# Altium integrated library CDE_Library.IntLib: 6171 symbols (part 22 of 25)
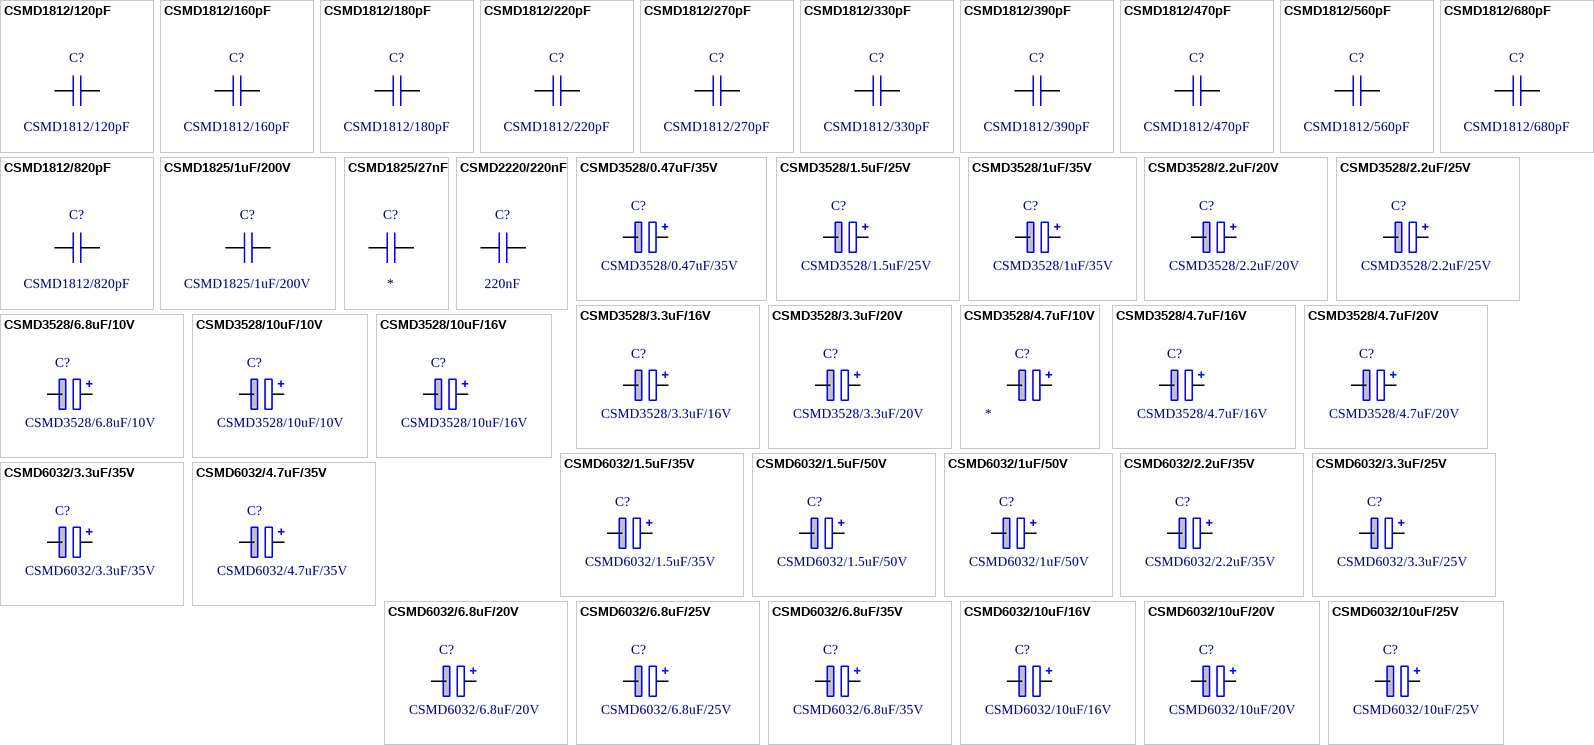
[diagram p278: symbols CSMD1812/120pF to CSMD6032/10uF/25V]

## CSMD1812/820pF
designator C?
smd capaciteit, verp.1812, 820pF; Part Number: CSMD1812/820pF; Component Kind: Standard; Component Type: Standard; Designator: CSMD1812/820pF; Footprint: smd C1812; Library Reference: CSMD1812/820pF; Pin Count: 2
footprint smd C1812
pins: 1, 2

## CSMD1825/1uF/200V
designator C?
smd capaciteit, verp.1825, 1uF/200V; Part Number: CSMD1825/1uF/200V; Component Kind: Standard; Component Type: Standard; Designator: CSMD1825/1uF/200V; Footprint: smd C1825; Library Reference: CSMD1825/1uF/200V; Pin Count: 2
footprint smd C1825
pins: 1, 2

## CSMD1825/27nF
designator C?
smd capaciteit, verp.1825, 27nF
footprint smd C1825
pins: 1, 2

## CSMD2220/220nF
designator C?, comment 220nF
smd capaciteit, verp.2220, 220nF
footprint smd C2220 (Chip Capacitor; Body 5.7 x 5.0 mm (LxW typ))
pins: 1, 2

## CSMD3528/0.47uF/35V
designator C?
smd capaciteit, tantalium, verp.3528, 0.47uF/35V; Part Number: CSMD3528/0.47uF/35V; Component Kind: Standard; Component Type: Standard; Designator: CSMD3528/0.47uF/35V; Footprint: smd EIA3528 polar; Library Reference: CSMD3528/0.47uF/35V; Pin Count: 2
footprint smd EIA3528 polar
pins: 1, 2

## CSMD3528/1.5uF/25V
designator C?
smd capaciteit, tantalium, verp.3528, 1.5uF/25V; Part Number: CSMD3528/1.5uF/25V; Component Kind: Standard; Component Type: Standard; Designator: CSMD3528/1.5uF/25V; Footprint: smd EIA3528 polar; Library Reference: CSMD3528/1.5uF/25V; Pin Count: 2
footprint smd EIA3528 polar
pins: 1, 2

## CSMD3528/1uF/35V
designator C?
smd capaciteit, tantalium, verp.3528, 1uF/35V; Part Number: CSMD3528/1uF/35V; Component Kind: Standard; Component Type: Standard; Designator: CSMD3528/1uF/35V; Footprint: smd EIA3528 polar; Library Reference: CSMD3528/1uF/35V; Pin Count: 2
footprint smd EIA3528 polar
pins: 1, 2

## CSMD3528/2.2uF/20V
designator C?
smd capaciteit, tantalium, verp.3528, 2.2uF/20V; Part Number: CSMD3528/2.2uF/20V; Component Kind: Standard; Component Type: Standard; Designator: CSMD3528/2.2uF/20V; Footprint: smd EIA3528 polar; Library Reference: CSMD3528/2.2uF/20V; Pin Count: 2
footprint smd EIA3528 polar
pins: 1, 2

## CSMD3528/2.2uF/25V
designator C?
smd capaciteit, tantalium, verp.3528, 2.2uF/25V; Part Number: CSMD3528/2.2uF/25V; Component Kind: Standard; Component Type: Standard; Designator: CSMD3528/2.2uF/25V; Footprint: smd EIA3528 polar; Library Reference: CSMD3528/2.2uF/25V; Pin Count: 2
footprint smd EIA3528 polar
pins: 1, 2

## CSMD3528/3.3uF/16V
designator C?
smd capaciteit, tantalium, verp.3528, 3.3uF/16V; Part Number: CSMD3528/3.3uF/16V; Component Kind: Standard; Component Type: Standard; Designator: CSMD3528/3.3uF/16V; Footprint: smd EIA3528 polar; Library Reference: CSMD3528/3.3uF/16V; Pin Count: 2
footprint smd EIA3528 polar
pins: 1, 2

## CSMD3528/3.3uF/20V
designator C?
smd capaciteit, tantalium, verp.3528, 3.3uF/20V; Part Number: CSMD3528/3.3uF/20V; Component Kind: Standard; Component Type: Standard; Designator: CSMD3528/3.3uF/20V; Footprint: smd EIA3528 polar; Library Reference: CSMD3528/3.3uF/20V; Pin Count: 2
footprint smd EIA3528 polar
pins: 1, 2

## CSMD3528/4.7uF/10V
designator C?
smd capaciteit, tantalium, verp.3528, 4.7uF/10V
footprint smd EIA3528 polar
pins: 1, 2

## CSMD3528/4.7uF/16V
designator C?
smd capaciteit, tantalium, verp.3528, 4.7uF/16V; Part Number: CSMD3528/4.7uF/16V; Component Kind: Standard; Component Type: Standard; Designator: CSMD3528/4.7uF/16V; Footprint: smd EIA3528 polar; Library Reference: CSMD3528/4.7uF/16V; Pin Count: 2
footprint smd EIA3528 polar
pins: 1, 2

## CSMD3528/4.7uF/20V
designator C?
smd capaciteit, tantalium, verp.3528, 4.7uF/20V; Part Number: CSMD3528/4.7uF/20V; Component Kind: Standard; Component Type: Standard; Designator: CSMD3528/4.7uF/20V; Footprint: smd EIA3528 polar; Library Reference: CSMD3528/4.7uF/20V; Pin Count: 2
footprint smd EIA3528 polar
pins: 1, 2

## CSMD3528/6.8uF/10V
designator C?
smd capaciteit, tantalium, verp.3528, 6.8uF/10V; Part Number: CSMD3528/6.8uF/10V; Component Kind: Standard; Component Type: Standard; Designator: CSMD3528/6.8uF/10V; Footprint: smd EIA3528 polar; Library Reference: CSMD3528/6.8uF/10V; Pin Count: 2
footprint smd EIA3528 polar
pins: 1, 2

## CSMD3528/10uF/10V
designator C?
smd capaciteit, tantalium, verp.3528, 10uF/10V; Part Number: CSMD3528/10uF/10V; Component Kind: Standard; Component Type: Standard; Designator: CSMD3528/10uF/10V; Footprint: smd EIA3528 polar; Library Reference: CSMD3528/10uF/10V; Pin Count: 2
footprint smd EIA3528 polar
pins: 1, 2

## CSMD3528/10uF/16V
designator C?
smd capaciteit, tantalium, verp.3528, 10uF/16V; Part Number: CSMD3528/10uF/16V; Component Kind: Standard; Component Type: Standard; Designator: CSMD3528/10uF/16V; Footprint: smd EIA3528 polar; Library Reference: CSMD3528/10uF/16V; Pin Count: 2
footprint smd EIA3528 polar
pins: 1, 2

## CSMD6032/1.5uF/35V
designator C?
smd capaciteit, tantalium, verp.6032, 1.5uF/35V; Part Number: CSMD6032/1.5uF/35V; Component Kind: Standard; Component Type: Standard; Designator: CSMD6032/1.5uF/35V; Footprint: smd EIA6032 polar; Library Reference: CSMD6032/1.5uF/35V; Pin Count: 2
footprint smd EIA6032 polar
pins: 1, 2

## CSMD6032/1.5uF/50V
designator C?
smd capaciteit, tantalium, verp.6032, 1.5uF/50V; Part Number: CSMD6032/1.5uF/50V; Component Kind: Standard; Component Type: Standard; Designator: CSMD6032/1.5uF/50V; Footprint: smd EIA6032 polar; Library Reference: CSMD6032/1.5uF/50V; Pin Count: 2
footprint smd EIA6032 polar
pins: 1, 2

## CSMD6032/1uF/50V
designator C?
smd capaciteit, tantalium, verp.6032, 1uF/50V; Part Number: CSMD6032/1uF/50V; Component Kind: Standard; Component Type: Standard; Designator: CSMD6032/1uF/50V; Footprint: smd EIA6032 polar; Library Reference: CSMD6032/1uF/50V; Pin Count: 2
footprint smd EIA6032 polar
pins: 1, 2

## CSMD6032/2.2uF/35V
designator C?
smd capaciteit, tantalium, verp.6032, 2.2uF/35V; Part Number: CSMD6032/2.2uF/35V; Component Kind: Standard; Component Type: Standard; Designator: CSMD6032/2.2uF/35V; Footprint: smd EIA6032 polar; Library Reference: CSMD6032/2.2uF/35V; Pin Count: 2
footprint smd EIA6032 polar
pins: 1, 2

## CSMD6032/3.3uF/25V
designator C?
smd capaciteit, tantalium, verp.6032, 3.3uF/25V; Part Number: CSMD6032/3.3uF/25V; Component Kind: Standard; Component Type: Standard; Designator: CSMD6032/3.3uF/25V; Footprint: smd EIA6032 polar; Library Reference: CSMD6032/3.3uF/25V; Pin Count: 2
footprint smd EIA6032 polar
pins: 1, 2

## CSMD6032/3.3uF/35V
designator C?
smd capaciteit, tantalium, verp.6032, 3.3uF/35V; Part Number: CSMD6032/3.3uF/35V; Component Kind: Standard; Component Type: Standard; Designator: CSMD6032/3.3uF/35V; Footprint: smd EIA6032 polar; Library Reference: CSMD6032/3.3uF/35V; Pin Count: 2
footprint smd EIA6032 polar
pins: 1, 2

## CSMD6032/4.7uF/35V
designator C?
smd capaciteit, tantalium, verp.6032, 4.7uF/35V; Part Number: CSMD6032/4.7uF/35V; Component Kind: Standard; Component Type: Standard; Designator: CSMD6032/4.7uF/35V; Footprint: smd EIA6032 polar; Library Reference: CSMD6032/4.7uF/35V; Pin Count: 2
footprint smd EIA6032 polar
pins: 1, 2

## CSMD6032/6.8uF/20V
designator C?
smd capaciteit, tantalium, verp.6032, 6.8uF/20V; Part Number: CSMD6032/6.8uF/20V; Component Kind: Standard; Component Type: Standard; Designator: CSMD6032/6.8uF/20V; Footprint: smd EIA6032 polar; Library Reference: CSMD6032/6.8uF/20V; Pin Count: 2
footprint smd EIA6032 polar
pins: 1, 2

## CSMD6032/6.8uF/25V
designator C?
smd capaciteit, tantalium, verp.6032, 6.8uF/25V; Part Number: CSMD6032/6.8uF/25V; Component Kind: Standard; Component Type: Standard; Designator: CSMD6032/6.8uF/25V; Footprint: smd EIA6032 polar; Library Reference: CSMD6032/6.8uF/25V; Pin Count: 2
footprint smd EIA6032 polar
pins: 1, 2

## CSMD6032/6.8uF/35V
designator C?
smd capaciteit, tantalium, verp.6032, 6.8uF/35V; Part Number: CSMD6032/6.8uF/35V; Component Kind: Standard; Component Type: Standard; Designator: CSMD6032/6.8uF/35V; Footprint: smd EIA6032 polar; Library Reference: CSMD6032/6.8uF/35V; Pin Count: 2
footprint smd EIA6032 polar
pins: 1, 2

## CSMD6032/10uF/16V
designator C?
smd capaciteit, tantalium, verp.6032, 10uF/16V; Part Number: CSMD6032/10uF/16V; Component Kind: Standard; Component Type: Standard; Designator: CSMD6032/10uF/16V; Footprint: smd EIA6032 polar; Library Reference: CSMD6032/10uF/16V; Pin Count: 2
footprint smd EIA6032 polar
pins: 1, 2

## CSMD6032/10uF/20V
designator C?
smd capaciteit, tantalium, verp.6032, 10uF/20V; Part Number: CSMD6032/10uF/20V; Component Kind: Standard; Component Type: Standard; Designator: CSMD6032/10uF/20V; Footprint: smd EIA6032 polar; Library Reference: CSMD6032/10uF/20V; Pin Count: 2
footprint smd EIA6032 polar
pins: 1, 2

## CSMD6032/10uF/25V
designator C?
smd capaciteit, tantalium, verp.6032, 10uF/25V; Part Number: CSMD6032/10uF/25V; Component Kind: Standard; Component Type: Standard; Designator: CSMD6032/10uF/25V; Footprint: smd EIA6032 polar; Library Reference: CSMD6032/10uF/25V; Pin Count: 2
footprint smd EIA6032 polar
pins: 1, 2

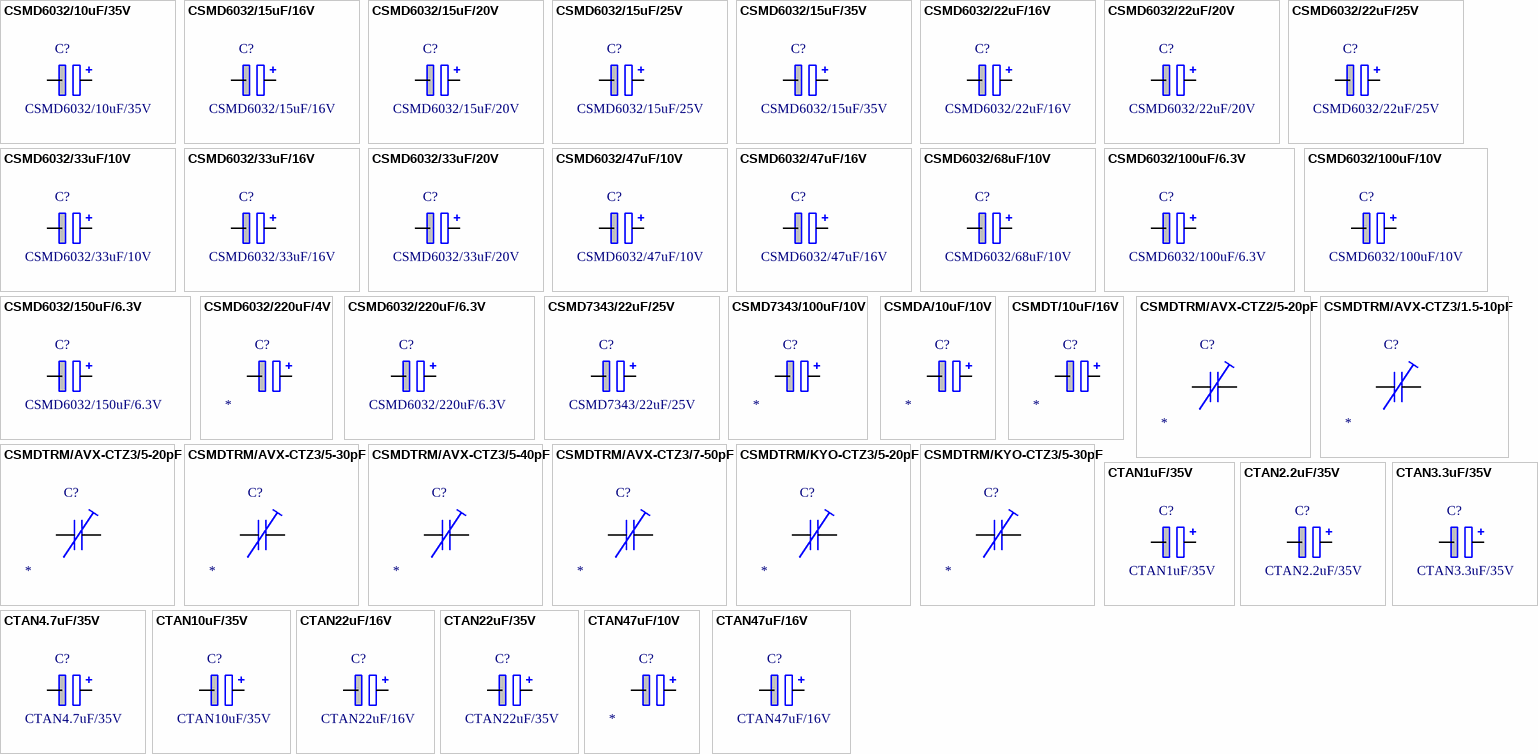
[diagram p233: symbols CSMD6032/10uF/35V to CTAN47uF/16V]

## CSMD6032/10uF/35V
designator C?
smd capaciteit, tantalium, verp.6032, 10uF/35V; Part Number: CSMD6032/10uF/35V; Component Kind: Standard; Component Type: Standard; Designator: CSMD6032/10uF/35V; Footprint: smd EIA6032 polar; Library Reference: CSMD6032/10uF/35V; Pin Count: 2
footprint smd EIA6032 polar
pins: 1, 2

## CSMD6032/15uF/16V
designator C?
smd capaciteit, tantalium, verp.6032, 15uF/16V; Part Number: CSMD6032/15uF/16V; Component Kind: Standard; Component Type: Standard; Designator: CSMD6032/15uF/16V; Footprint: smd EIA6032 polar; Library Reference: CSMD6032/15uF/16V; Pin Count: 2
footprint smd EIA6032 polar
pins: 1, 2

## CSMD6032/15uF/20V
designator C?
smd capaciteit, tantalium, verp.6032, 15uF/20V; Part Number: CSMD6032/15uF/20V; Component Kind: Standard; Component Type: Standard; Designator: CSMD6032/15uF/20V; Footprint: smd EIA6032 polar; Library Reference: CSMD6032/15uF/20V; Pin Count: 2
footprint smd EIA6032 polar
pins: 1, 2

## CSMD6032/15uF/25V
designator C?
smd capaciteit, tantalium, verp.6032, 15uF/25V; Part Number: CSMD6032/15uF/25V; Component Kind: Standard; Component Type: Standard; Designator: CSMD6032/15uF/25V; Footprint: smd EIA6032 polar; Library Reference: CSMD6032/15uF/25V; Pin Count: 2
footprint smd EIA6032 polar
pins: 1, 2

## CSMD6032/15uF/35V
designator C?
smd capaciteit, tantalium, verp.6032, 15uF/35V; Part Number: CSMD6032/15uF/35V; Component Kind: Standard; Component Type: Standard; Designator: CSMD6032/15uF/35V; Footprint: smd EIA6032 polar; Library Reference: CSMD6032/15uF/35V; Pin Count: 2
footprint smd EIA6032 polar
pins: 1, 2

## CSMD6032/22uF/16V
designator C?
smd capaciteit, tantalium, verp.6032, 22uF/16V; Part Number: CSMD6032/22uF/16V; Component Kind: Standard; Component Type: Standard; Designator: CSMD6032/22uF/16V; Footprint: smd EIA6032 polar; Library Reference: CSMD6032/22uF/16V; Pin Count: 2
footprint smd EIA6032 polar
pins: 1, 2

## CSMD6032/22uF/20V
designator C?
smd capaciteit, tantalium, verp.6032, 22uF/20V; Part Number: CSMD6032/22uF/20V; Component Kind: Standard; Component Type: Standard; Designator: CSMD6032/22uF/20V; Footprint: smd EIA6032 polar; Library Reference: CSMD6032/22uF/20V; Pin Count: 2
footprint smd EIA6032 polar
pins: 1, 2

## CSMD6032/22uF/25V
designator C?
smd capaciteit, tantalium, verp.6032, 22uF/25V; Part Number: CSMD6032/22uF/25V; Component Kind: Standard; Component Type: Standard; Designator: CSMD6032/22uF/25V; Footprint: smd EIA6032 polar; Library Reference: CSMD6032/22uF/25V; Pin Count: 2
footprint smd EIA6032 polar
pins: 1, 2

## CSMD6032/33uF/10V
designator C?
smd capaciteit, tantalium, verp.6032, 33uF/10V; Part Number: CSMD6032/33uF/10V; Component Kind: Standard; Component Type: Standard; Designator: CSMD6032/33uF/10V; Footprint: smd EIA6032 polar; Library Reference: CSMD6032/33uF/10V; Pin Count: 2
footprint smd EIA6032 polar
pins: 1, 2

## CSMD6032/33uF/16V
designator C?
smd capaciteit, tantalium, verp.6032, 33uF/16V; Part Number: CSMD6032/33uF/16V; Component Kind: Standard; Component Type: Standard; Designator: CSMD6032/33uF/16V; Footprint: smd EIA6032 polar; Library Reference: CSMD6032/33uF/16V; Pin Count: 2
footprint smd EIA6032 polar
pins: 1, 2

## CSMD6032/33uF/20V
designator C?
smd capaciteit, tantalium, verp.6032, 33uF/20V; Part Number: CSMD6032/33uF/20V; Component Kind: Standard; Component Type: Standard; Designator: CSMD6032/33uF/20V; Footprint: smd EIA6032 polar; Library Reference: CSMD6032/33uF/20V; Pin Count: 2
footprint smd EIA6032 polar
pins: 1, 2

## CSMD6032/47uF/10V
designator C?
smd capaciteit, tantalium, verp.6032, 47uF/10V; Part Number: CSMD6032/47uF/10V; Component Kind: Standard; Component Type: Standard; Designator: CSMD6032/47uF/10V; Footprint: smd EIA6032 polar; Library Reference: CSMD6032/47uF/10V; Pin Count: 2
footprint smd EIA6032 polar
pins: 1, 2

## CSMD6032/47uF/16V
designator C?
smd capaciteit, tantalium, verp.6032, 47uF/16V; Part Number: CSMD6032/47uF/16V; Component Kind: Standard; Component Type: Standard; Designator: CSMD6032/47uF/16V; Footprint: smd EIA6032 polar; Library Reference: CSMD6032/47uF/16V; Pin Count: 2
footprint smd EIA6032 polar
pins: 1, 2

## CSMD6032/68uF/10V
designator C?
smd capaciteit, tantalium, verp.6032, 68uF/10V; Part Number: CSMD6032/68uF/10V; Component Kind: Standard; Component Type: Standard; Designator: CSMD6032/68uF/10V; Footprint: smd EIA6032 polar; Library Reference: CSMD6032/68uF/10V; Pin Count: 2
footprint smd EIA6032 polar
pins: 1, 2

## CSMD6032/100uF/6.3V
designator C?
smd capaciteit, tantalium, verp.6032, 100uF/6.3V; Part Number: CSMD6032/100uF/6.3V; Component Kind: Standard; Component Type: Standard; Designator: CSMD6032/100uF/6.3V; Footprint: smd EIA6032 polar; Library Reference: CSMD6032/100uF/6.3V; Pin Count: 2
footprint smd EIA6032 polar
pins: 1, 2

## CSMD6032/100uF/10V
designator C?
smd capaciteit, tantalium, verp.6032, 100uF/10V; Part Number: CSMD6032/100uF/10V; Component Kind: Standard; Component Type: Standard; Designator: CSMD6032/100uF/10V; Footprint: smd EIA6032 polar; Library Reference: CSMD6032/100uF/10V; Pin Count: 2
footprint smd EIA6032 polar
pins: 1, 2

## CSMD6032/150uF/6.3V
designator C?
smd capaciteit, tantalium, verp.6032, 150uF/6.3V; Part Number: CSMD6032/150uF/6.3V; Component Kind: Standard; Component Type: Standard; Designator: CSMD6032/150uF/6.3V; Footprint: smd EIA6032 polar; Library Reference: CSMD6032/150uF/6.3V; Pin Count: 2
footprint smd EIA6032 polar
pins: 1, 2

## CSMD6032/220uF/4V
designator C?
smd capaciteit, tantalium, verp.6032, 220uF/4V
footprint smd EIA6032 polar
pins: 1, 2

## CSMD6032/220uF/6.3V
designator C?
smd capaciteit, tantalium, verp.6032, 220uF/6.3V; Part Number: CSMD6032/220uF/6.3V; Component Kind: Standard; Component Type: Standard; Designator: CSMD6032/220uF/6.3V; Footprint: smd EIA6032 polar; Library Reference: CSMD6032/220uF/6.3V; Pin Count: 2
footprint smd EIA6032 polar
pins: 1, 2

## CSMD7343/22uF/25V
designator C?
smd capaciteit, tantalium, verp.7343, 22uF/25V; Part Number: CSMD7343/22uF/25V; Component Kind: Standard; Component Type: Standard; Designator: CSMD7343/22uF/25V; Footprint: smd EIA7343 polar; Library Reference: CSMD7343/22uF/25V; Pin Count: 2
footprint smd EIA7343 polar
pins: 1, 2

## CSMD7343/100uF/10V
designator C?
smd capaciteit, tantalium, verp.7343, 100uF/10V
footprint smd EIA7343 polar
pins: 1, 2

## CSMDA/10uF/10V
designator C?
smd capaciteit, tantalium, verp.A, 10uF/10V
footprint smd CA (Capacitor, SM Tantalum; Body 3.2 x 1.6 mm (LxW typ))
pins: 1, 2

## CSMDT/10uF/16V
designator C?
smd capaciteit, tantalium, verp.T, 10uF/16V
footprint smd CT
pins: 1, 2

## CSMDTRM/AVX-CTZ2/5-20pF
designator C?
smd trimmer, AVX serie CTZ2, 5-20pF
footprint smd trimcap CTZ2 (Kyocera)
pins: 1, 2

## CSMDTRM/AVX-CTZ3/1.5-10pF
designator C?
smd trimmer, AVX serie CTZ3, 1.5-10pF
footprint trim C (AVX/CTZ3)
pins: 1, 2

## CSMDTRM/AVX-CTZ3/5-20pF
designator C?
smd trimmer, AVX serie CTZ3, 5-20pF
footprint trim C (AVX/CTZ3)
pins: 1, 2

## CSMDTRM/AVX-CTZ3/5-30pF
designator C?
smd trimmer, AVX serie CTZ3, 5-30pF
footprint trim C (AVX/CTZ3)
pins: 1, 2

## CSMDTRM/AVX-CTZ3/5-40pF
designator C?
smd trimmer, AVX serie CTZ3, 5-40pF
footprint trim C (AVX/CTZ3)
pins: 1, 2

## CSMDTRM/AVX-CTZ3/7-50pF
designator C?
smd trimmer, AVX serie CTZ3, 7-50pF
footprint trim C (AVX/CTZ3)
pins: 1, 2

## CSMDTRM/KYO-CTZ3/5-20pF
designator C?
smd trimmer, Kyocera serie CTZ3, 5-20pF
footprint smd trimcap CTZ3 (Kyocera)
pins: 1, 2

## CSMDTRM/KYO-CTZ3/5-30pF
designator C?
smd trimmer, Kyocera serie CTZ3, 5-30pF
footprint smd trimcap CTZ3 (Kyocera)
pins: 1, 2

## CTAN1uF/35V
designator C?
tantalium capaciteit 1uF/35V; Part Number: CTAN1uF/35V; Component Kind: Standard; Component Type: Standard; Designator: CTAN1uF/35V; Footprint: cap 15 pol (.32/.32/.2/90/32); Library Reference: CTAN1uF/35V; Pin Count: 2
footprint cap 15 pol (.32/.32/.2/90/32)
pins: 1, 2

## CTAN2.2uF/35V
designator C?
tantalium capaciteit 2,2uF/35V; Part Number: CTAN2.2uF/35V; Component Kind: Standard; Component Type: Standard; Designator: CTAN2.2uF/35V; Footprint: cap 15 pol (.32/.32/.2/90/32); Library Reference: CTAN2.2uF/35V; Pin Count: 2
footprint cap 15 pol (.32/.32/.2/90/32)
pins: 1, 2

## CTAN3.3uF/35V
designator C?
tantalium capaciteit 3,3uF/35V; Part Number: CTAN3.3uF/35V; Component Kind: Standard; Component Type: Standard; Designator: CTAN3.3uF/35V; Footprint: cap 15 pol (.32/.32/.2/90/32); Library Reference: CTAN3.3uF/35V; Pin Count: 2
footprint cap 15 pol (.32/.32/.2/90/32)
pins: 1, 2

## CTAN4.7uF/35V
designator C?
tantalium capaciteit 4,7uF/35V; Part Number: CTAN4.7uF/35V; Component Kind: Standard; Component Type: Standard; Designator: CTAN4.7uF/35V; Footprint: cap 15 pol (.32/.32/.2/90/32); Library Reference: CTAN4.7uF/35V; Pin Count: 2
footprint cap 15 pol (.32/.32/.2/90/32)
pins: 1, 2

## CTAN10uF/35V
designator C?
tantalium capaciteit 10uF/35V; Part Number: CTAN10uF/35V; Component Kind: Standard; Component Type: Standard; Designator: CTAN10uF/35V; Footprint: cap 15 pol (.32/.32/.2/90/32); Library Reference: CTAN10uF/35V; Pin Count: 2
footprint cap 15 pol (.32/.32/.2/90/32)
pins: 1, 2

## CTAN22uF/16V
designator C?
tantalium capaciteit 22uF/16V; Part Number: CTAN22uF/16V; Component Kind: Standard; Component Type: Standard; Designator: CTAN22uF/16V; Footprint: cap 14 pol (.22/.22/.1/F120/32); Library Reference: CTAN22uF/16V; Pin Count: 2
footprint cap 14 pol (.22/.22/.1/F120/32)
pins: 1, 2

## CTAN22uF/35V
designator C?
tantalium capaciteit 22uF/35V; Part Number: CTAN22uF/35V; Component Kind: Standard; Component Type: Standard; Designator: CTAN22uF/35V; Footprint: cap 15 pol (.32/.32/.2/90/32); Library Reference: CTAN22uF/35V; Pin Count: 2
footprint cap 15 pol (.32/.32/.2/90/32)
pins: 1, 2

## CTAN47uF/10V
designator C?
tantalium capaciteit 47uF/10V
footprint cap 14 pol (.22/.22/.1/F120/32)
pins: 1, 2

## CTAN47uF/16V
designator C?
tantalium capaciteit 47uF/16V; Part Number: CTAN47uF/16V; Component Kind: Standard; Component Type: Standard; Designator: CTAN47uF/16V; Footprint: cap 15 pol (.32/.32/.2/90/32); Library Reference: CTAN47uF/16V; Pin Count: 2
footprint cap 15 pol (.32/.32/.2/90/32)
pins: 1, 2

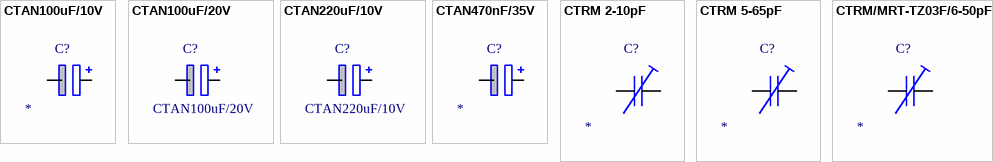
[diagram p234: symbols CTAN100uF/10V to CTRM/MRT-TZ03F/6-50pF]

## CTAN100uF/10V
designator C?
tantalium capaciteit 100uF/10V
footprint cap 15 pol (.32/.32/.2/90/32)
pins: 1, 2

## CTAN100uF/20V
designator C?
tantalium capaciteit 100uF/20V; Part Number: CTAN100uF/20V; Component Kind: Standard; Component Type: Standard; Designator: CTAN100uF/20V; Footprint: cap 15 pol (.32/.32/.2/90/32); Library Reference: CTAN100uF/20V; Pin Count: 2
footprint cap 15 pol (.32/.32/.2/90/32)
pins: 1, 2

## CTAN220uF/10V
designator C?
tantalium capaciteit 220uF/10V; Part Number: CTAN220uF/10V; Component Kind: Standard; Component Type: Standard; Designator: CTAN220uF/10V; Footprint: cap 15 pol (.32/.32/.2/90/32); Library Reference: CTAN220uF/10V; Pin Count: 2
footprint cap 15 pol (.32/.32/.2/90/32)
pins: 1, 2

## CTAN470nF/35V
designator C?
tantalium capaciteit 470nF/35V
footprint cap 15 pol (.32/.32/.2/90/32)
pins: 1, 2

## CTRM 2-10pF
designator C?
trimmer 2-10pF 250V
footprint trim C kl (D.3/100/59)
pins: 1, 2

## CTRM 5-65pF
designator C?
trimmer 5-65pF 250V
footprint trim C gr (D.39/100/59)
pins: 1, 2

## CTRM/MRT-TZ03F/6-50pF
designator C?
trimmer 6-50pF, Murata serie TZ03F
footprint trim C (Murata TZ03-F serie)
pins: 1, 2


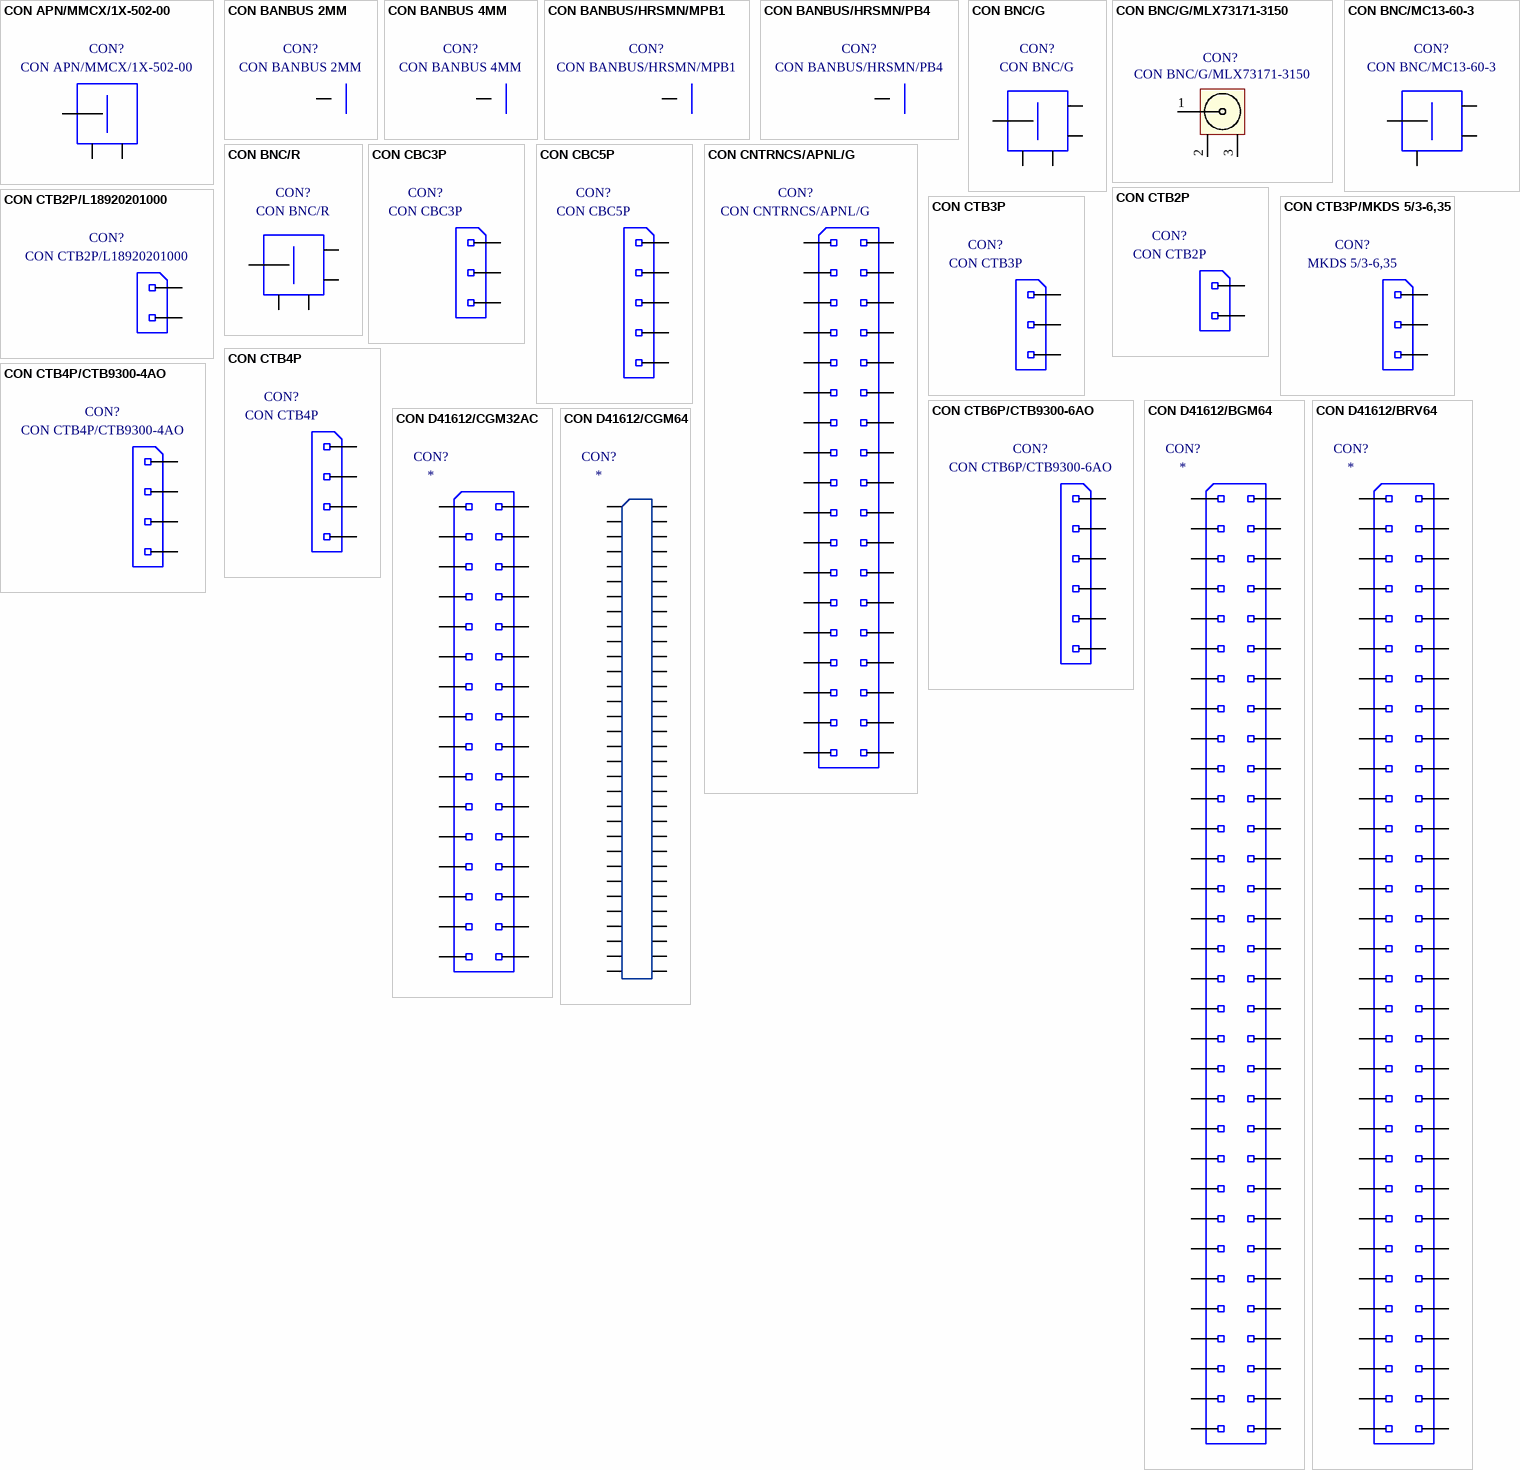
[diagram p235: symbols CON APN/MMCX/1X-502-00 to CON D41612/CGM64]

## CON APN/MMCX/1X-502-00
designator CON?
connector Amphenol, MMCX serie, 1X-502-00; Part Number: CON APN/MMCX/1X-502-00; Component Kind: Standard; Component Type: Standard; Designator: CON APN/MMCX/1X-502-00; Footprint: con smd MMCX 1X-502-00 (Amphenol); Library Reference: CON APN/MMCX/1X-502-00; Pin Count: 3
footprint con smd MMCX 1X-502-00 (Amphenol)
pins: 1, 2, 3

## CON BANBUS 2MM
designator CON?
stekkerbus banaan 2mm; Part Number: CON BANBUS 2MM; Component Kind: Standard; Component Type: Standard; Designator: CON BANBUS 2MM; Footprint: con banaan bus 2mm; Library Reference: CON BANBUS 2MM; Pin Count: 1
footprint con banaan bus 2mm
pins: 1

## CON BANBUS 4MM
designator CON?
stekkerbus banaan 4mm; Part Number: CON BANBUS 4MM; Component Kind: Standard; Component Type: Standard; Designator: CON BANBUS 4MM; Footprint: con banaan bus 4mm; Library Reference: CON BANBUS 4MM; Pin Count: 1
footprint con banaan bus 4mm
pins: 1

## CON BANBUS/HRSMN/MPB1
designator CON?
stekkerbus banaan 2mm, Hirshmann MPB1; Part Number: CON BANBUS/HRSMN/MPB1; Component Kind: Standard; Component Type: Standard; Designator: CON BANBUS/HRSMN/MPB1; Footprint: con banaan bus 2mm (Hirschmann MPB1); Library Reference: CON BANBUS/HRSMN/MPB1; Pin Count: 1
footprint con banaan bus 2mm (Hirschmann MPB1)
pins: 1

## CON BANBUS/HRSMN/PB4
designator CON?
stekkerbus banaan 4mm, Hirschmann PB4; Part Number: CON BANBUS/HRSMN/PB4; Component Kind: Standard; Component Type: Standard; Designator: CON BANBUS/HRSMN/PB4; Footprint: con banaan bus 4mm (Hirschmann PB4); Library Reference: CON BANBUS/HRSMN/PB4; Pin Count: 1
footprint con banaan bus 4mm (Hirschmann PB4)
pins: 1

## CON BNC/G
designator CON?
connector BNC 90gr; Part Number: CON BNC/G; Component Kind: Standard; Component Type: Standard; Designator: CON BNC/G; Footprint: con BNC (gebogen); Library Reference: CON BNC/G; Pin Count: 5
footprint con BNC (gebogen)
pins: 1, 2, 3, 4, 5

## CON BNC/G/MLX73171-3150
designator CON?
connector BNC Molex 73171-3150
footprint CON BNC (MOLEX 73171-3150)
pins: 1, 2, 3

## CON BNC/MC13-60-3
designator CON?
connector BNC afgeschermd, Multicomp 13-60-3; Part Number: CON BNC/MC13-60-3; Component Kind: Standard; Component Type: Standard; Designator: CON BNC/MC13-60-3; Footprint: con BNC (Multicomp 13-60-3); Library Reference: CON BNC/MC13-60-3; Pin Count: 4
footprint con BNC (Multicomp 13-60-3)
pins: 1, 2, 3, 4

## CON BNC/R
designator CON?
connector BNC recht; Part Number: CON BNC/R; Component Kind: Standard; Component Type: Standard; Designator: CON BNC/R; Footprint: con BNC (recht); Library Reference: CON BNC/R; Pin Count: 5
footprint con BNC (recht)
pins: 1, 2, 3, 4, 5

## CON CBC3P
designator CON?
connector CombiCon 3 pin; Part Number: CON CBC3P; Component Kind: Standard; Component Type: Standard; Designator: CON CBC3P; Footprint: con CBC3; Library Reference: CON CBC3P; Pin Count: 3
footprint con CBC3
pins: 1, 2, 3

## CON CBC5P
designator CON?
connector CombiCon 5 pin; Part Number: CON CBC5P; Component Kind: Standard; Component Type: Standard; Designator: CON CBC5P; Footprint: con CBC5; Library Reference: CON CBC5P; Pin Count: 5
footprint con CBC5
pins: 1, 2, 3, 4, 5

## CON CNTRNCS/APNL/G
designator CON?
connector Centronics, Amphenol, 90gr; Part Number: CON CNTRNCS/APNL/G; Component Kind: Standard; Component Type: Standard; Designator: CON CNTRNCS/APNL/G; Footprint: con CENTRONICS; Library Reference: CON CNTRNCS/APNL/G; Pin Count: 36
footprint con CENTRONICS
pins: 1, 2, 3, 4, 5, 6, 7, 8, 9, 10, 11, 12, 13, 14, 15, 16, 17, 18, 19, 20, 21, 22, 23, 24, 25, 26, 27, 28, 29, 30, 31, 32, 33, 34, 35, 36

## CON CTB2P
designator CON?
contactbrug vast 2 pin; Part Number: CON CTB2P; Component Kind: Standard; Component Type: Standard; Designator: CON CTB2P; Footprint: contactbrug 2; Library Reference: CON CTB2P; Pin Count: 2
footprint contactbrug 2
pins: 1, 2

## CON CTB2P/L18920201000
designator CON?
contactbrug vast 2p, Entrelec L18920201000; Part Number: CON CTB2P/L18920201000; Component Kind: Standard; Component Type: Standard; Designator: CON CTB2P/L18920201000; Footprint: contactbrug 2p (ENTRELEC L18920201000); Library Reference: CON CTB2P/L18920201000; Pin Count: 2
footprint contactbrug 2p (ENTRELEC L18920201000)
pins: 1, 2

## CON CTB3P
designator CON?
contactbrug vast 3 pin; Part Number: CON CTB3P; Component Kind: Standard; Component Type: Standard; Designator: CON CTB3P; Footprint: contactbrug 3; Library Reference: CON CTB3P; Pin Count: 3
footprint contactbrug 3
pins: 1, 2, 3

## CON CTB3P/MKDS 5/3-6,35
designator CON?, comment MKDS 5/3-6,35
contactbrug Phoenix Contact MKDS 5/3-6,35; Part Number: CON CTB3P; Component Kind: Standard; Component Type: Standard; Designator: CON CTB3P; Footprint: contactbrug 3; Library Reference: CON CTB3P; Pin Count: 3
footprint MKDS 5/3-6,35 (TERMINAL BLOCK, PCB, 6.35MM, 3WAY)
pins: 1, 2, 3

## CON CTB4P
designator CON?
contactbrug vast 4 pin; Part Number: CON CTB4P; Component Kind: Standard; Component Type: Standard; Designator: CON CTB4P; Footprint: contactbrug 4; Library Reference: CON CTB4P; Pin Count: 4
footprint contactbrug 4
pins: 1, 2, 3, 4

## CON CTB4P/CTB9300-4AO
designator CON?
contactbrug deelbaar 4p, Camden CTB9300-4AO; Part Number: CON CTB4P/CTB9300-4AO; Component Kind: Standard; Component Type: Standard; Designator: CON CTB4P/CTB9300-4AO; Footprint: con CTB4 (Camden CTB9300/4AO); Library Reference: CON CTB4P/CTB9300-4AO; Pin Count: 4
footprint con CTB4 (Camden CTB9300/4AO)
pins: 1, 2, 3, 4

## CON CTB6P/CTB9300-6AO
designator CON?
contactbrug deelbaar 6p, Camden CTB9300-6AO; Part Number: CON CTB6P/CTB9300-6AO; Component Kind: Standard; Component Type: Standard; Designator: CON CTB6P/CTB9300-6AO; Footprint: con CTB6 (Camden CTB9300/6AO); Library Reference: CON CTB6P/CTB9300-6AO; Pin Count: 6
footprint con CTB6 (Camden CTB9300/6AO)
pins: 1, 2, 3, 4, 5, 6

## CON D41612/BGM64
designator CON?
connector DIN41612 type B, 64 pennen, 90gr, man
footprint con 41612/BGM64
pins: 1, 2, 3, 4, 5, 6, 7, 8, 9, 10, 11, 12, 13, 14, 15, 16, 17, 18, 19, 20, 21, 22, 23, 24, 25, 26, 27, 28, 29, 30, 31, 32, 33, 34, 35, 36, 37, 38, 39, 40, 41, 42, 43, 44, 45, 46, 47, 48, 49, 50, 51, 52, 53, 54, 55, 56, 57, 58, 59, 60, 61, 62, 63, 64

## CON D41612/BRV64
designator CON?
connector DIN41612 type B, 64 rechte pennen, vrouw
footprint con 41612/BRV64
pins: 1, 2, 3, 4, 5, 6, 7, 8, 9, 10, 11, 12, 13, 14, 15, 16, 17, 18, 19, 20, 21, 22, 23, 24, 25, 26, 27, 28, 29, 30, 31, 32, 33, 34, 35, 36, 37, 38, 39, 40, 41, 42, 43, 44, 45, 46, 47, 48, 49, 50, 51, 52, 53, 54, 55, 56, 57, 58, 59, 60, 61, 62, 63, 64

## CON D41612/CGM32AC
designator CON?
connector DIN41612 type C, 32 pennen, 90gr, man, A+C
footprint con 41612/CGM32AC
pins: 1, 2, 3, 4, 5, 6, 7, 8, 9, 10, 11, 12, 13, 14, 15, 16, 17, 18, 19, 20, 21, 22, 23, 24, 25, 26, 27, 28, 29, 30, 31, 32

## CON D41612/CGM64
designator CON?
connector DIN41612 type C, 64 pennen, 90gr, man
footprint con 41612/CGM64
pins: 1, 2, 3, 4, 5, 6, 7, 8, 9, 10, 11, 12, 13, 14, 15, 16, 17, 18, 19, 20, 21, 22, 23, 24, 25, 26, 27, 28, 29, 30, 31, 32, 33, 34, 35, 36, 37, 38, 39, 40, 41, 42, 43, 44, 45, 46, 47, 48, 49, 50, 51, 52, 53, 54, 55, 56, 57, 58, 59, 60, 61, 62, 63, 64

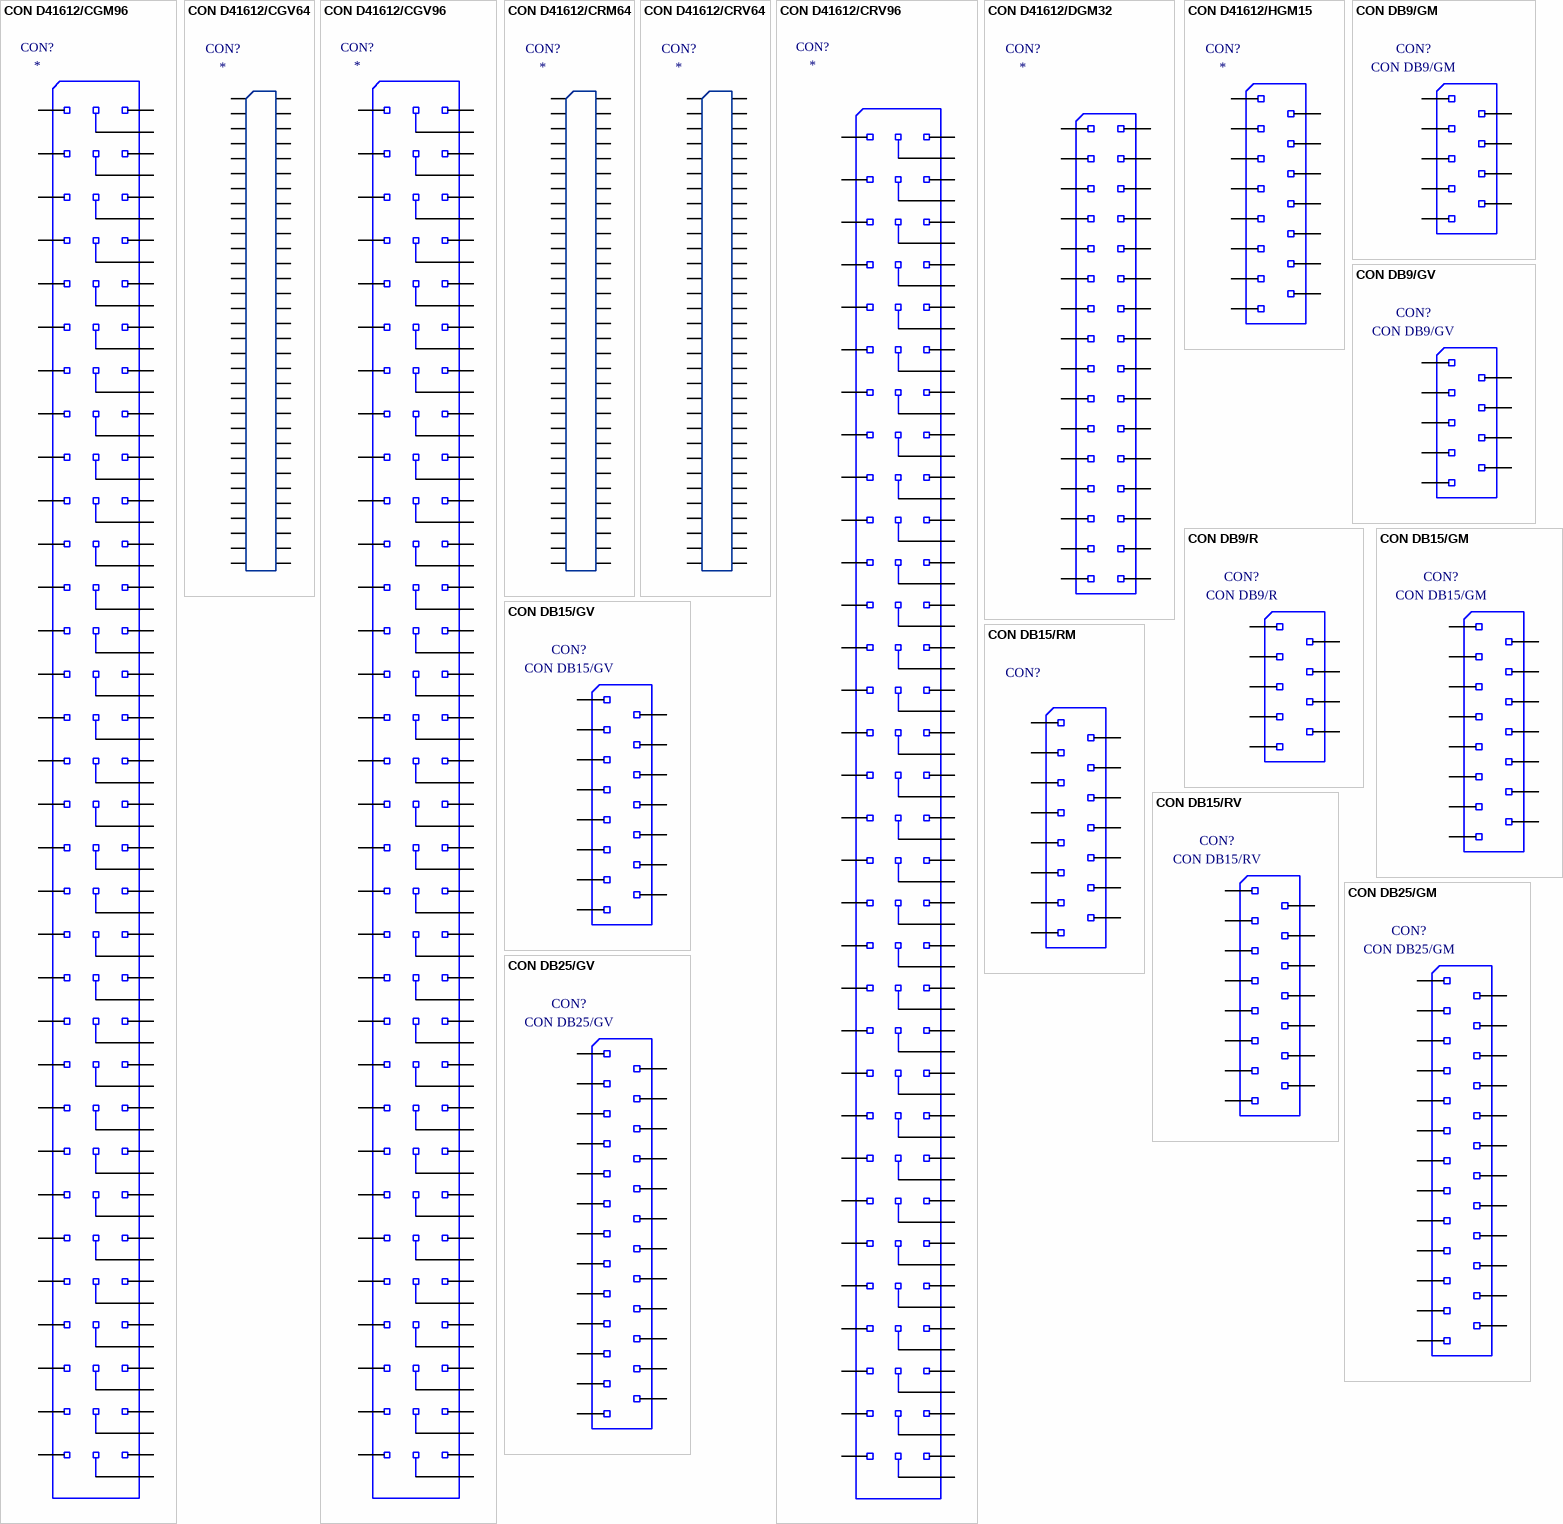
[diagram p236: symbols CON D41612/CGM96 to CON DB25/GV]

## CON D41612/CGM96
designator CON?
connector DIN41612 type C, 96 pennen, 90gr, man
footprint con 41612/CGM96
pins: 1, 2, 3, 4, 5, 6, 7, 8, 9, 10, 11, 12, 13, 14, 15, 16, 17, 18, 19, 20, 21, 22, 23, 24, 25, 26, 27, 28, 29, 30, 31, 32, 33, 34, 35, 36, 37, 38, 39, 40, 41, 42, 43, 44, 45, 46, 47, 48, 49, 50, 51, 52, 53, 54, 55, 56, 57, 58, 59, 60, 61, 62, 63, 64, 65, 66, 67, 68, 69, 70, 71, 72, 73, 74, 75, 76, 77, 78, 79, 80, 81, 82, 83, 84, 85, 86, 87, 88, 89, 90, 91, 92, 93, 94, 95, 96

## CON D41612/CGV64
designator CON?
connector DIN41612 type C, 64 pennen, 90gr, vrouw
footprint con 41612/CGV64
pins: 1, 2, 3, 4, 5, 6, 7, 8, 9, 10, 11, 12, 13, 14, 15, 16, 17, 18, 19, 20, 21, 22, 23, 24, 25, 26, 27, 28, 29, 30, 31, 32, 33, 34, 35, 36, 37, 38, 39, 40, 41, 42, 43, 44, 45, 46, 47, 48, 49, 50, 51, 52, 53, 54, 55, 56, 57, 58, 59, 60, 61, 62, 63, 64

## CON D41612/CGV96
designator CON?
connector DIN41612 type C, 96 pennen, 90gr, vrouw
footprint con 41612/CGV96
pins: 1, 2, 3, 4, 5, 6, 7, 8, 9, 10, 11, 12, 13, 14, 15, 16, 17, 18, 19, 20, 21, 22, 23, 24, 25, 26, 27, 28, 29, 30, 31, 32, 33, 34, 35, 36, 37, 38, 39, 40, 41, 42, 43, 44, 45, 46, 47, 48, 49, 50, 51, 52, 53, 54, 55, 56, 57, 58, 59, 60, 61, 62, 63, 64, 65, 66, 67, 68, 69, 70, 71, 72, 73, 74, 75, 76, 77, 78, 79, 80, 81, 82, 83, 84, 85, 86, 87, 88, 89, 90, 91, 92, 93, 94, 95, 96

## CON D41612/CRM64
designator CON?
connector DIN41612 type C, 64 rechte pennen, man
footprint con 41612/CRM64
pins: 1, 2, 3, 4, 5, 6, 7, 8, 9, 10, 11, 12, 13, 14, 15, 16, 17, 18, 19, 20, 21, 22, 23, 24, 25, 26, 27, 28, 29, 30, 31, 32, 33, 34, 35, 36, 37, 38, 39, 40, 41, 42, 43, 44, 45, 46, 47, 48, 49, 50, 51, 52, 53, 54, 55, 56, 57, 58, 59, 60, 61, 62, 63, 64

## CON D41612/CRV64
designator CON?
connector DIN41612 type C, 64 rechte pennen, vrouw
footprint con 41612/CRV64
pins: 1, 2, 3, 4, 5, 6, 7, 8, 9, 10, 11, 12, 13, 14, 15, 16, 17, 18, 19, 20, 21, 22, 23, 24, 25, 26, 27, 28, 29, 30, 31, 32, 33, 34, 35, 36, 37, 38, 39, 40, 41, 42, 43, 44, 45, 46, 47, 48, 49, 50, 51, 52, 53, 54, 55, 56, 57, 58, 59, 60, 61, 62, 63, 64

## CON D41612/CRV96
designator CON?
connector DIN41612 type C, 96 rechte pennen, vrouw
footprint con 41612/CRV96
pins: 1, 2, 3, 4, 5, 6, 7, 8, 9, 10, 11, 12, 13, 14, 15, 16, 17, 18, 19, 20, 21, 22, 23, 24, 25, 26, 27, 28, 29, 30, 31, 32, 33, 34, 35, 36, 37, 38, 39, 40, 41, 42, 43, 44, 45, 46, 47, 48, 49, 50, 51, 52, 53, 54, 55, 56, 57, 58, 59, 60, 61, 62, 63, 64, 65, 66, 67, 68, 69, 70, 71, 72, 73, 74, 75, 76, 77, 78, 79, 80, 81, 82, 83, 84, 85, 86, 87, 88, 89, 90, 91, 92, 93, 94, 95, 96

## CON D41612/DGM32
designator CON?
connector DIN41612 type D, 32 pennen, 90gr, man
footprint con 41612/CGM32AC
pins: 1, 2, 3, 4, 5, 6, 7, 8, 9, 10, 11, 12, 13, 14, 15, 16, 17, 18, 19, 20, 21, 22, 23, 24, 25, 26, 27, 28, 29, 30, 31, 32

## CON D41612/HGM15
designator CON?
connector DIN41612 type H, 15 pennen, 90gr, man
footprint con 41612/HGM15
pins: 1, 2, 3, 4, 5, 6, 7, 8, 9, 10, 11, 12, 13, 14, 15

## CON DB9/GM
designator CON?
connector sub-D 9 pennen, 90gr, man; Part Number: CON DB9/GM; Component Kind: Standard; Component Type: Standard; Designator: CON DB9/GM; Footprint: con DB9 M; Library Reference: CON DB9/GM; Pin Count: 9
footprint con DB9 M
pins: 1, 2, 3, 4, 5, 6, 7, 8, 9

## CON DB9/GV
designator CON?
connector sub-D 9 pennen, 90gr, vrouw; Part Number: CON DB9/GV; Component Kind: Standard; Component Type: Standard; Designator: CON DB9/GV; Footprint: con DB9 V; Library Reference: CON DB9/GV; Pin Count: 9
footprint con DB9 V
pins: 1, 2, 3, 4, 5, 6, 7, 8, 9

## CON DB9/R
designator CON?
connector sub-D 9 pennen, recht, man; Part Number: CON DB9/GM; Component Kind: Standard; Component Type: Standard; Designator: CON DB9/GM; Footprint: con DB9 M; Library Reference: CON DB9/GM; Pin Count: 9
footprint con DB9 R
pins: 1, 2, 3, 4, 5, 6, 7, 8, 9

## CON DB15/GM
designator CON?
connector sub-D 15 pennen, 90gr, man; Part Number: CON DB15/GM; Component Kind: Standard; Component Type: Standard; Designator: CON DB15/GM; Footprint: con DB15 M; Library Reference: CON DB15/GM; Pin Count: 15
footprint con DB15 M
pins: 1, 2, 3, 4, 5, 6, 7, 8, 9, 10, 11, 12, 13, 14, 15

## CON DB15/GV
designator CON?
connector sub-D 15 pennen, 90gr, vrouw; Part Number: CON DB15/GV; Component Kind: Standard; Component Type: Standard; Designator: CON DB15/GV; Footprint: con DB15 V; Library Reference: CON DB15/GV; Pin Count: 15
footprint con DB15 V
pins: 1, 2, 3, 4, 5, 6, 7, 8, 9, 10, 11, 12, 13, 14, 15

## CON DB15/RM
designator CON?  (value not drawn)
connector sub-D, 15 rechte pennen, man; Part Number: CON DB15/RV; Component Kind: Standard; Component Type: Standard; Designator: CON DB15/RV; Footprint: con DB15 V (rechtop); Library Reference: CON DB15/RV; Pin Count: 15
footprint con DB15 M (rechtop)
pins: 1, 2, 3, 4, 5, 6, 7, 8, 9, 10, 11, 12, 13, 14, 15

## CON DB15/RV
designator CON?
connector sub-D, 15 rechte pennen, vrouw; Part Number: CON DB15/RV; Component Kind: Standard; Component Type: Standard; Designator: CON DB15/RV; Footprint: con DB15 V (rechtop); Library Reference: CON DB15/RV; Pin Count: 15
footprint con DB15 V (rechtop)
pins: 1, 2, 3, 4, 5, 6, 7, 8, 9, 10, 11, 12, 13, 14, 15

## CON DB25/GM
designator CON?
connector sub-D 25 pennen, 90gr, man; Part Number: CON DB25/GM; Component Kind: Standard; Component Type: Standard; Designator: CON DB25/GM; Footprint: con DB25 M; Library Reference: CON DB25/GM; Pin Count: 25
footprint con DB25 M
pins: 1, 2, 3, 4, 5, 6, 7, 8, 9, 10, 11, 12, 13, 14, 15, 16, 17, 18, 19, 20, 21, 22, 23, 24, 25

## CON DB25/GV
designator CON?
connector sub-D 25 pennen, 90gr, vrouw; Part Number: CON DB25/GV; Component Kind: Standard; Component Type: Standard; Designator: CON DB25/GV; Footprint: con DB25 V; Library Reference: CON DB25/GV; Pin Count: 25
footprint con DB25 V
pins: 1, 2, 3, 4, 5, 6, 7, 8, 9, 10, 11, 12, 13, 14, 15, 16, 17, 18, 19, 20, 21, 22, 23, 24, 25

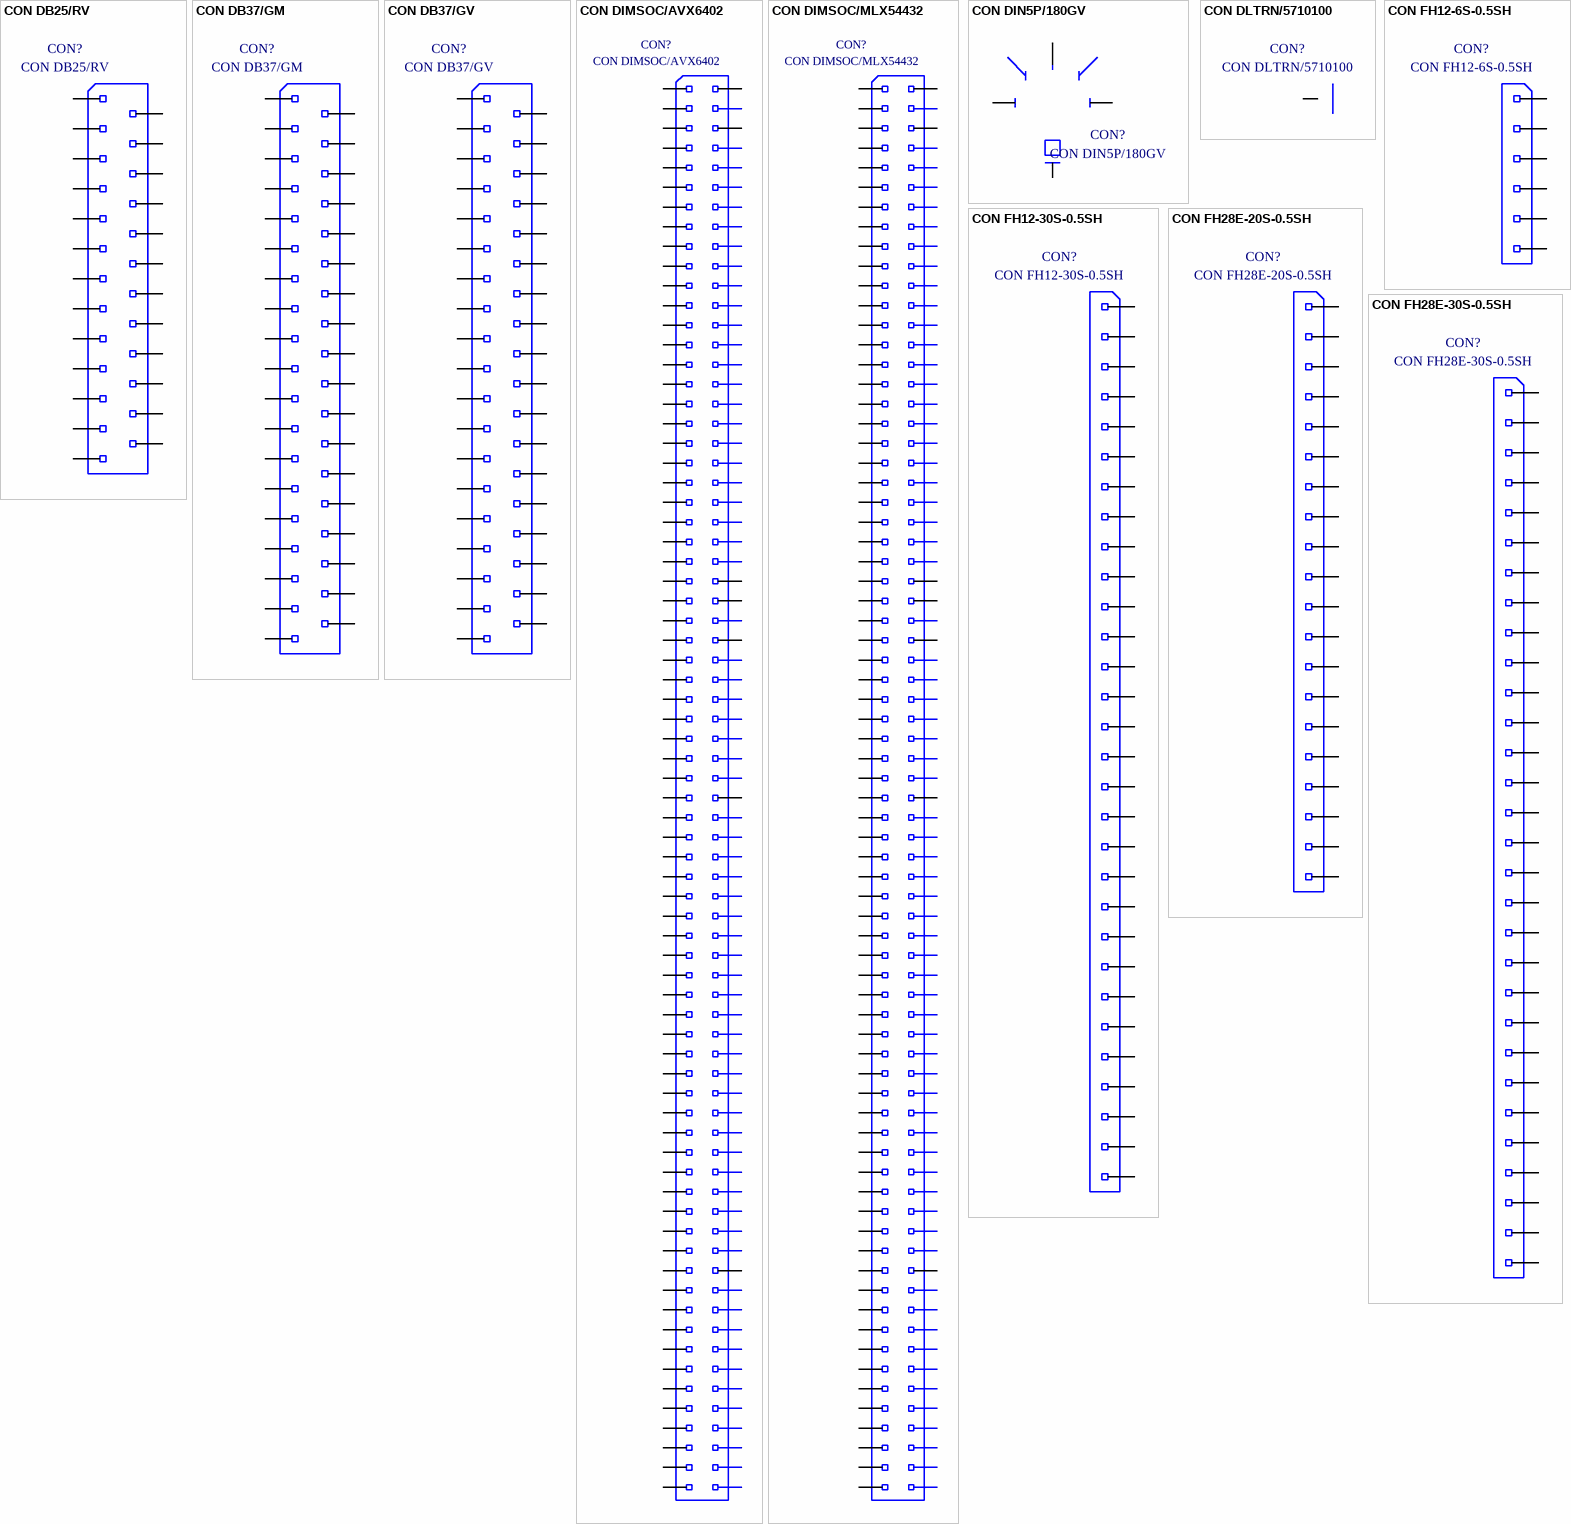
[diagram p237: symbols CON DB25/RV to CON FH28E-30S-0.5SH]

## CON DB25/RV
designator CON?
connector sub-D, 25 rechte pennen, vrouw; Part Number: CON DB25/RV; Component Kind: Standard; Component Type: Standard; Designator: CON DB25/RV; Footprint: con DB25 V (rechtop); Library Reference: CON DB25/RV; Pin Count: 25
footprint con DB25 V (rechtop)
pins: 1, 2, 3, 4, 5, 6, 7, 8, 9, 10, 11, 12, 13, 14, 15, 16, 17, 18, 19, 20, 21, 22, 23, 24, 25

## CON DB37/GM
designator CON?
connector sub-D 37 pennen, 90gr, man; Part Number: CON DB37/GM; Component Kind: Standard; Component Type: Standard; Designator: CON DB37/GM; Footprint: con DB37 M; Library Reference: CON DB37/GM; Pin Count: 37
footprint con DB37 M
pins: 1, 2, 3, 4, 5, 6, 7, 8, 9, 10, 11, 12, 13, 14, 15, 16, 17, 18, 19, 20, 21, 22, 23, 24, 25, 26, 27, 28, 29, 30, 31, 32, 33, 34, 35, 36, 37

## CON DB37/GV
designator CON?
connector sub-D 37 pennen, 90gr, vrouw; Part Number: CON DB37/GV; Component Kind: Standard; Component Type: Standard; Designator: CON DB37/GV; Footprint: con DB37 V; Library Reference: CON DB37/GV; Pin Count: 37
footprint con DB37 V
pins: 1, 2, 3, 4, 5, 6, 7, 8, 9, 10, 11, 12, 13, 14, 15, 16, 17, 18, 19, 20, 21, 22, 23, 24, 25, 26, 27, 28, 29, 30, 31, 32, 33, 34, 35, 36, 37

## CON DIMSOC/AVX6402
designator CON?
connector DIMM socket 144p, smd, Avx 6402; Part Number: CON DIMSOC/AVX6402; Component Kind: Standard; Component Type: Standard; Designator: CON DIMSOC/AVX6402; Footprint: con DIMM Sock 144p (AVX 6402); Library Reference: CON DIMSOC/AVX6402; Pin Count: 144
footprint con DIMM Sock 144p (AVX 6402)
pins: 1, 2, 3, 4, 5, 6, 7, 8, 9, 10, 11, 12, 13, 14, 15, 16, 17, 18, 19, 20, 21, 22, 23, 24, 25, 26, 27, 28, 29, 30, 31, 32, 33, 34, 35, 36, 37, 38, 39, 40, 41, 42, 43, 44, 45, 46, 47, 48, 49, 50, 51, 52, 53, 54, 55, 56, 57, 58, 59, 60, 61, 62, 63, 64, 65, 66, 67, 68, 69, 70, 71, 72, 73, 74, 75, 76, 77, 78, 79, 80, 81, 82, 83, 84, 85, 86, 87, 88, 89, 90, 91, 92, 93, 94, 95, 96, 97, 98, 99, 100, 101, 102, 103, 104, 105, 106, 107, 108, 109, 110, 111, 112, 113, 114, 115, 116, 117, 118, 119, 120, 121, 122, 123, 124, 125, 126, 127, 128, 129, 130, 131, 132, 133, 134, 135, 136, 137, 138, 139, 140, 141, 142, 143, 144

## CON DIMSOC/MLX54432
designator CON?
connector DIMM socket 144p, smd, Molex 54432; Part Number: CON DIMSOC/MLX54432; Component Kind: Standard; Component Type: Standard; Designator: CON DIMSOC/MLX54432; Footprint: con 54432 DIMM Sock (Molex); Library Reference: CON DIMSOC/MLX54432; Pin Count: 144
footprint con 54432 DIMM Sock (Molex)
pins: 1, 2, 3, 4, 5, 6, 7, 8, 9, 10, 11, 12, 13, 14, 15, 16, 17, 18, 19, 20, 21, 22, 23, 24, 25, 26, 27, 28, 29, 30, 31, 32, 33, 34, 35, 36, 37, 38, 39, 40, 41, 42, 43, 44, 45, 46, 47, 48, 49, 50, 51, 52, 53, 54, 55, 56, 57, 58, 59, 60, 61, 62, 63, 64, 65, 66, 67, 68, 69, 70, 71, 72, 73, 74, 75, 76, 77, 78, 79, 80, 81, 82, 83, 84, 85, 86, 87, 88, 89, 90, 91, 92, 93, 94, 95, 96, 97, 98, 99, 100, 101, 102, 103, 104, 105, 106, 107, 108, 109, 110, 111, 112, 113, 114, 115, 116, 117, 118, 119, 120, 121, 122, 123, 124, 125, 126, 127, 128, 129, 130, 131, 132, 133, 134, 135, 136, 137, 138, 139, 140, 141, 142, 143, 144

## CON DIN5P/180GV
designator CON?
connector audio DIN, 5 pennen 180gr, 90gr, vrouw; Part Number: CON DIN5P/180GV; Component Kind: Standard; Component Type: Standard; Designator: CON DIN5P/180GV; Footprint: con DIN5P-180 socket (Hirschmann MAB5SH); Library Reference: CON DIN5P/180GV; Pin Count: 6
footprint con DIN5P-180 socket (Hirschmann MAB5SH)
pins: 1, 2, 3, 4, 5, 6

## CON DLTRN/5710100
designator CON?
stekkerbus banaan 4mm, Deltron Emcon 571-0100; Part Number: CON DLTRN/5710100; Component Kind: Standard; Component Type: Standard; Designator: CON DLTRN/5710100; Footprint: con banaan bus 4mm (Deltron Emcon 5710100); Library Reference: CON DLTRN/5710100; Pin Count: 1
footprint con banaan bus 4mm (Deltron Emcon 5710100)
pins: 1

## CON FH12-6S-0.5SH
designator CON?
connector Hirose, bandkabel 6 pennen, ZIF; Part Number: CON FH12-6S-0.5SH; Component Kind: Standard; Component Type: Standard; Designator: CON FH12-6S-0.5SH; Footprint: con FH12-6S-0.5SH (HIROSE); Library Reference: CON FH12-6S-0.5SH; Pin Count: 6
footprint con FH12-6S-0.5SH (HIROSE)
pins: 1, 2, 3, 4, 5, 6

## CON FH12-30S-0.5SH
designator CON?
connector Hirose, bandkabel 30 pennen, ZIF; Part Number: CON FH12-30S-0.5SH; Component Kind: Standard; Component Type: Standard; Designator: CON FH12-30S-0.5SH; Footprint: con FH12-30S-0.5SH (HIROSE); Library Reference: CON FH12-30S-0.5SH; Pin Count: 30
footprint con FH12-30S-0.5SH (HIROSE)
pins: 1, 2, 3, 4, 5, 6, 7, 8, 9, 10, 11, 12, 13, 14, 15, 16, 17, 18, 19, 20, 21, 22, 23, 24, 25, 26, 27, 28, 29, 30

## CON FH28E-20S-0.5SH
designator CON?
connector Hirose, bandkabel 20 pennen, ZIF; Part Number: CON FH28E-20S-0.5SH; Component Kind: Standard; Component Type: Standard; Designator: CON FH28E-20S-0.5SH; Footprint: con FH28E-20S-0.5SH (HIROSE); Library Reference: CON FH28E-20S-0.5SH; Pin Count: 20
footprint con FH28E-20S-0.5SH (HIROSE)
pins: 1, 2, 3, 4, 5, 6, 7, 8, 9, 10, 11, 12, 13, 14, 15, 16, 17, 18, 19, 20

## CON FH28E-30S-0.5SH
designator CON?
connector Hirose, bandkabel 30 pennen, ZIF; Part Number: CON FH28E-30S-0.5SH; Component Kind: Standard; Component Type: Standard; Designator: CON FH28E-30S-0.5SH; Footprint: con FH28E-30S-0.5SH (HIROSE); Library Reference: CON FH28E-30S-0.5SH; Pin Count: 30
footprint con FH28E-30S-0.5SH (HIROSE)
pins: 1, 2, 3, 4, 5, 6, 7, 8, 9, 10, 11, 12, 13, 14, 15, 16, 17, 18, 19, 20, 21, 22, 23, 24, 25, 26, 27, 28, 29, 30

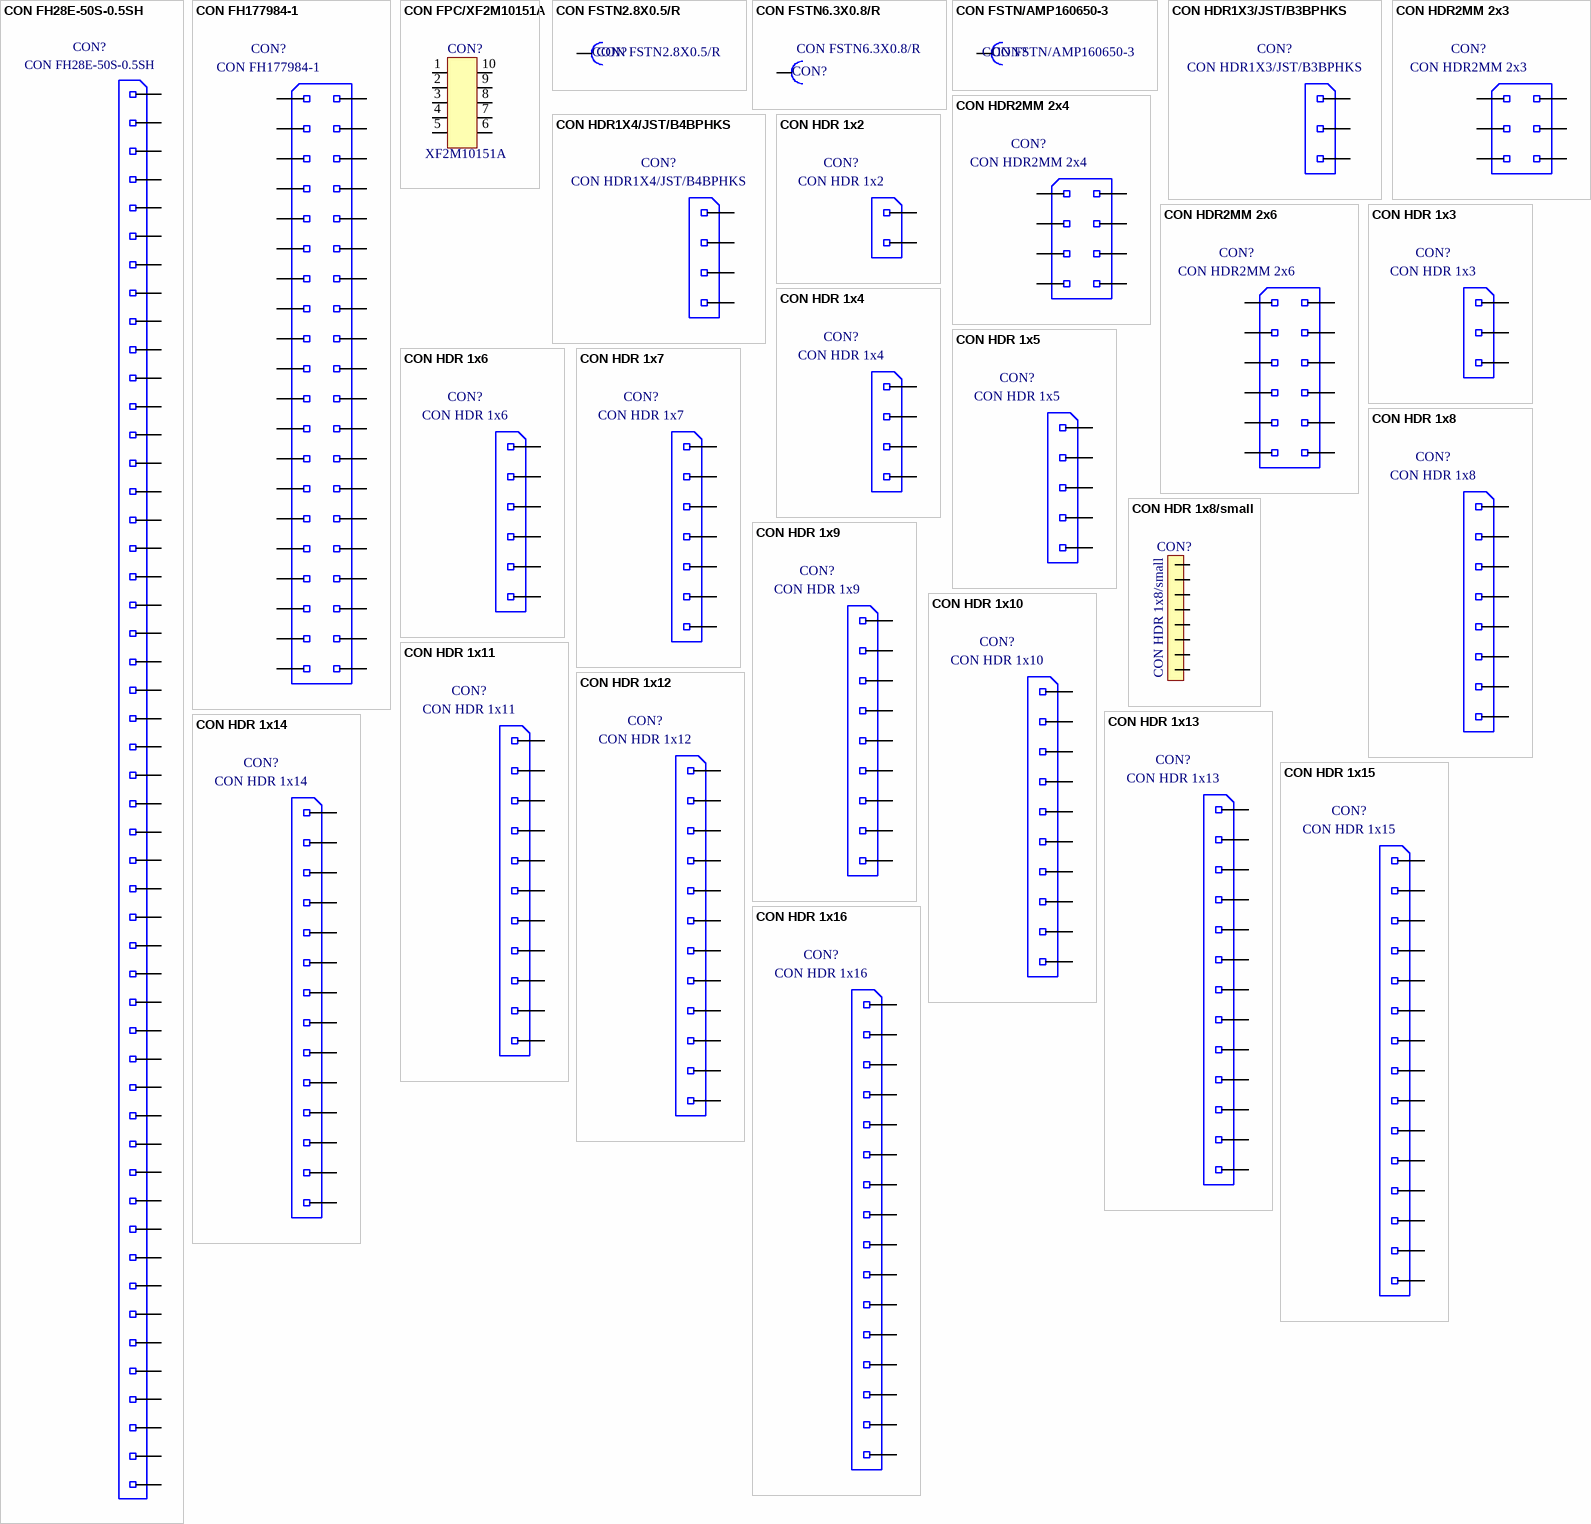
[diagram p238: symbols CON FH28E-50S-0.5SH to CON HDR 1x16]

## CON FH28E-50S-0.5SH
designator CON?
connector Hirose, bandkabel 50 pennen, ZIF; Part Number: CON FH28E-50S-0.5SH; Component Kind: Standard; Component Type: Standard; Designator: CON FH28E-50S-0.5SH; Footprint: con FH28E-50S-0.5SH (HIROSE); Library Reference: CON FH28E-50S-0.5SH; Pin Count: 50
footprint con FH28E-50S-0.5SH (HIROSE)
pins: 1, 2, 3, 4, 5, 6, 7, 8, 9, 10, 11, 12, 13, 14, 15, 16, 17, 18, 19, 20, 21, 22, 23, 24, 25, 26, 27, 28, 29, 30, 31, 32, 33, 34, 35, 36, 37, 38, 39, 40, 41, 42, 43, 44, 45, 46, 47, 48, 49, 50

## CON FH177984-1
designator CON?
connector smd header, Amp FH177984-1, 40 pennen; Part Number: CON FH177984-1; Component Kind: Standard; Component Type: Standard; Designator: CON FH177984-1; Footprint: con HDR/FH177984-1 (Amp); Library Reference: CON FH177984-1; Pin Count: 40
footprint con HDR/FH177984-1 (Amp)
pins: 1, 2, 3, 4, 5, 6, 7, 8, 9, 10, 11, 12, 13, 14, 15, 16, 17, 18, 19, 20, 21, 22, 23, 24, 25, 26, 27, 28, 29, 30, 31, 32, 33, 34, 35, 36, 37, 38, 39, 40

## CON FPC/XF2M10151A
designator CON?, comment XF2M10151A
Omron ZIF FPC connector XF2M10151A
footprint smd FPC/10 (Omron XF2M10151A)
pins: 1, 2, 3, 4, 5, 6, 7, 8, 9, 10

## CON FSTN2.8X0.5/R
designator CON?
faston 2.8x0.5mm, rechtop; Part Number: CON FSTN2.8X0.5/R; Component Kind: Standard; Component Type: Standard; Designator: CON FSTN2.8X0.5/R; Footprint: con FASTON (2.8x0.5mm recht); Library Reference: CON FSTN2.8X0.5/R; Pin Count: 1
footprint con FASTON (2.8x0.5mm recht)
pins: 1

## CON FSTN6.3X0.8/R
designator CON?
faston 6.3x0.8mm, rechtop; Part Number: CON FSTN6.3X0.8/R; Component Kind: Standard; Component Type: Standard; Designator: CON FSTN6.3X0.8/R; Footprint: con FASTON (6.3x0.8 recht); Library Reference: CON FSTN6.3X0.8/R; Pin Count: 1
footprint con FASTON (6.3x0.8 recht)
pins: 1

## CON FSTN/AMP160650-3
designator CON?
faston liggend, Amp 160650-3; Part Number: CON FSTN/AMP160650-3; Component Kind: Standard; Component Type: Standard; Designator: CON FSTN/AMP160650-3; Footprint: con FASTON (Amp 160650-3); Library Reference: CON FSTN/AMP160650-3; Pin Count: 1
footprint con FASTON (Amp 160650-3)
pins: 1

## CON HDR1X3/JST/B3BPHKS
designator CON?
header 1x3, JST B3B-PH-K-S; Part Number: CON HDR1X3/JST/B3BPHKS; Component Kind: Standard; Component Type: Standard; Designator: CON HDR1X3/JST/B3BPHKS; Footprint: con HDR/BNR1x3 (pitch 2mm, JST B3B-PH-K-S); Library Reference: CON HDR1X3/JST/B3BPHKS; Pin Count: 3
footprint con HDR/BNR1x3 (pitch 2mm, JST B3B-PH-K-S)
pins: 1, 2, 3

## CON HDR1X4/JST/B4BPHKS
designator CON?
header 1x4, JST B4B-PH-K-S; Part Number: CON HDR1X4/JST/B4BPHKS; Component Kind: Standard; Component Type: Standard; Designator: CON HDR1X4/JST/B4BPHKS; Footprint: con HDR/BNR1x4 (pitch 2mm, JST B4B-PH-K-S); Library Reference: CON HDR1X4/JST/B4BPHKS; Pin Count: 4
footprint con HDR/BNR1x4 (pitch 2mm, JST B4B-PH-K-S)
pins: 1, 2, 3, 4

## CON HDR2MM 2x3
designator CON?
pcb header recht 2x3  pitch 2mm; Part Number: CON HDR2MM 2x3; Component Kind: Standard; Component Type: Standard; Designator: CON HDR2MM 2x3; Footprint: hdr p2mm 2x3; Library Reference: CON HDR2MM 2x3; Pin Count: 6
footprint hdr p2mm 2x3
pins: 1, 2, 3, 4, 5, 6

## CON HDR2MM 2x4
designator CON?
pcb header recht 2x4  pitch 2mm; Part Number: CON HDR2MM 2x4; Component Kind: Standard; Component Type: Standard; Designator: CON HDR2MM 2x4; Footprint: hdr p2mm 2x4; Library Reference: CON HDR2MM 2x4; Pin Count: 8
footprint hdr p2mm 2x4
pins: 1, 2, 3, 4, 5, 6, 7, 8

## CON HDR2MM 2x6
designator CON?
pcb header recht 2x6  pitch 2mm; Part Number: CON HDR2MM 2x6; Component Kind: Standard; Component Type: Standard; Designator: CON HDR2MM 2x6; Footprint: hdr p2mm 2x6; Library Reference: CON HDR2MM 2x6; Pin Count: 12
footprint hdr p2mm 2x6
pins: 1, 2, 3, 4, 5, 6, 7, 8, 9, 10, 11, 12

## CON HDR 1x2
designator CON?
pcb header recht 1x2  pitch 100mil; Part Number: CON HDR 1x2; Component Kind: Standard; Component Type: Standard; Designator: CON HDR 1x2; Footprint: hdr 1x2; Library Reference: CON HDR 1x2; Pin Count: 2
footprint hdr 1x2
pins: 1, 2

## CON HDR 1x3
designator CON?
pcb header recht 1x3  pitch 100mil; Part Number: CON HDR 1x3; Component Kind: Standard; Component Type: Standard; Designator: CON HDR 1x3; Footprint: hdr 1x3; Library Reference: CON HDR 1x3; Pin Count: 3
footprint hdr 1x3
pins: 1, 2, 3

## CON HDR 1x4
designator CON?
pcb header recht 1x4  pitch 100mil; Part Number: CON HDR 1x4; Component Kind: Standard; Component Type: Standard; Designator: CON HDR 1x4; Footprint: hdr 1x4; Library Reference: CON HDR 1x4; Pin Count: 4
footprint hdr 1x4
pins: 1, 2, 3, 4

## CON HDR 1x5
designator CON?
pcb header recht 1x5  pitch 100mil; Part Number: CON HDR 1x5; Component Kind: Standard; Component Type: Standard; Designator: CON HDR 1x5; Footprint: hdr 1x5; Library Reference: CON HDR 1x5; Pin Count: 5
footprint hdr 1x5
pins: 1, 2, 3, 4, 5

## CON HDR 1x6
designator CON?
pcb header recht 1x6  pitch 100mil; Part Number: CON HDR 1x6; Component Kind: Standard; Component Type: Standard; Designator: CON HDR 1x6; Footprint: hdr 1x6; Library Reference: CON HDR 1x6; Pin Count: 6
footprint hdr 1x6
pins: 1, 2, 3, 4, 5, 6

## CON HDR 1x7
designator CON?
pcb header recht 1x7  pitch 100mil; Part Number: CON HDR 1x7; Component Kind: Standard; Component Type: Standard; Designator: CON HDR 1x7; Footprint: hdr 1x7; Library Reference: CON HDR 1x7; Pin Count: 7
footprint hdr 1x7
pins: 1, 2, 3, 4, 5, 6, 7

## CON HDR 1x8
designator CON?
pcb header recht 1x8  pitch 100mil; Part Number: CON HDR 1x8; Component Kind: Standard; Component Type: Standard; Designator: CON HDR 1x8; Footprint: hdr 1x8; Library Reference: CON HDR 1x8; Pin Count: 8
footprint hdr 1x8
pins: 1, 2, 3, 4, 5, 6, 7, 8

## CON HDR 1x8/small
designator CON?
pcb header recht 1x8  pitch 100mil
footprint hdr 1x8
pins: 1, 2, 3, 4, 5, 6, 7, 8

## CON HDR 1x9
designator CON?
pcb header recht 1x9  pitch 100mil; Part Number: CON HDR 1x9; Component Kind: Standard; Component Type: Standard; Designator: CON HDR 1x9; Footprint: hdr 1x9; Library Reference: CON HDR 1x9; Pin Count: 9
footprint hdr 1x9
pins: 1, 2, 3, 4, 5, 6, 7, 8, 9

## CON HDR 1x10
designator CON?
pcb header recht 1x10  pitch 100mil; Part Number: CON HDR 1x10; Component Kind: Standard; Component Type: Standard; Designator: CON HDR 1x10; Footprint: hdr 1x10; Library Reference: CON HDR 1x10; Pin Count: 10
footprint hdr 1x10
pins: 1, 2, 3, 4, 5, 6, 7, 8, 9, 10

## CON HDR 1x11
designator CON?
pcb header recht 1x11  pitch 100mil; Part Number: CON HDR 1x11; Component Kind: Standard; Component Type: Standard; Designator: CON HDR 1x11; Footprint: hdr 1x11; Library Reference: CON HDR 1x11; Pin Count: 11
footprint hdr 1x11
pins: 1, 2, 3, 4, 5, 6, 7, 8, 9, 10, 11

## CON HDR 1x12
designator CON?
pcb header recht 1x12  pitch 100mil; Part Number: CON HDR 1x12; Component Kind: Standard; Component Type: Standard; Designator: CON HDR 1x12; Footprint: hdr 1x12; Library Reference: CON HDR 1x12; Pin Count: 12
footprint hdr 1x12
pins: 1, 2, 3, 4, 5, 6, 7, 8, 9, 10, 11, 12

## CON HDR 1x13
designator CON?
pcb header recht 1x13  pitch 100mil; Part Number: CON HDR 1x13; Component Kind: Standard; Component Type: Standard; Designator: CON HDR 1x13; Footprint: hdr 1x13; Library Reference: CON HDR 1x13; Pin Count: 13
footprint hdr 1x13
pins: 1, 2, 3, 4, 5, 6, 7, 8, 9, 10, 11, 12, 13

## CON HDR 1x14
designator CON?
pcb header recht 1x14  pitch 100mil; Part Number: CON HDR 1x14; Component Kind: Standard; Component Type: Standard; Designator: CON HDR 1x14; Footprint: hdr 1x14; Library Reference: CON HDR 1x14; Pin Count: 14
footprint hdr 1x14
pins: 1, 2, 3, 4, 5, 6, 7, 8, 9, 10, 11, 12, 13, 14

## CON HDR 1x15
designator CON?
pcb header recht 1x15  pitch 100mil; Part Number: CON HDR 1x15; Component Kind: Standard; Component Type: Standard; Designator: CON HDR 1x15; Footprint: hdr 1x15; Library Reference: CON HDR 1x15; Pin Count: 15
footprint hdr 1x15
pins: 1, 2, 3, 4, 5, 6, 7, 8, 9, 10, 11, 12, 13, 14, 15

## CON HDR 1x16
designator CON?
pcb header recht 1x16  pitch 100mil; Part Number: CON HDR 1x16; Component Kind: Standard; Component Type: Standard; Designator: CON HDR 1x16; Footprint: hdr 1x16; Library Reference: CON HDR 1x16; Pin Count: 16
footprint hdr 1x16
pins: 1, 2, 3, 4, 5, 6, 7, 8, 9, 10, 11, 12, 13, 14, 15, 16

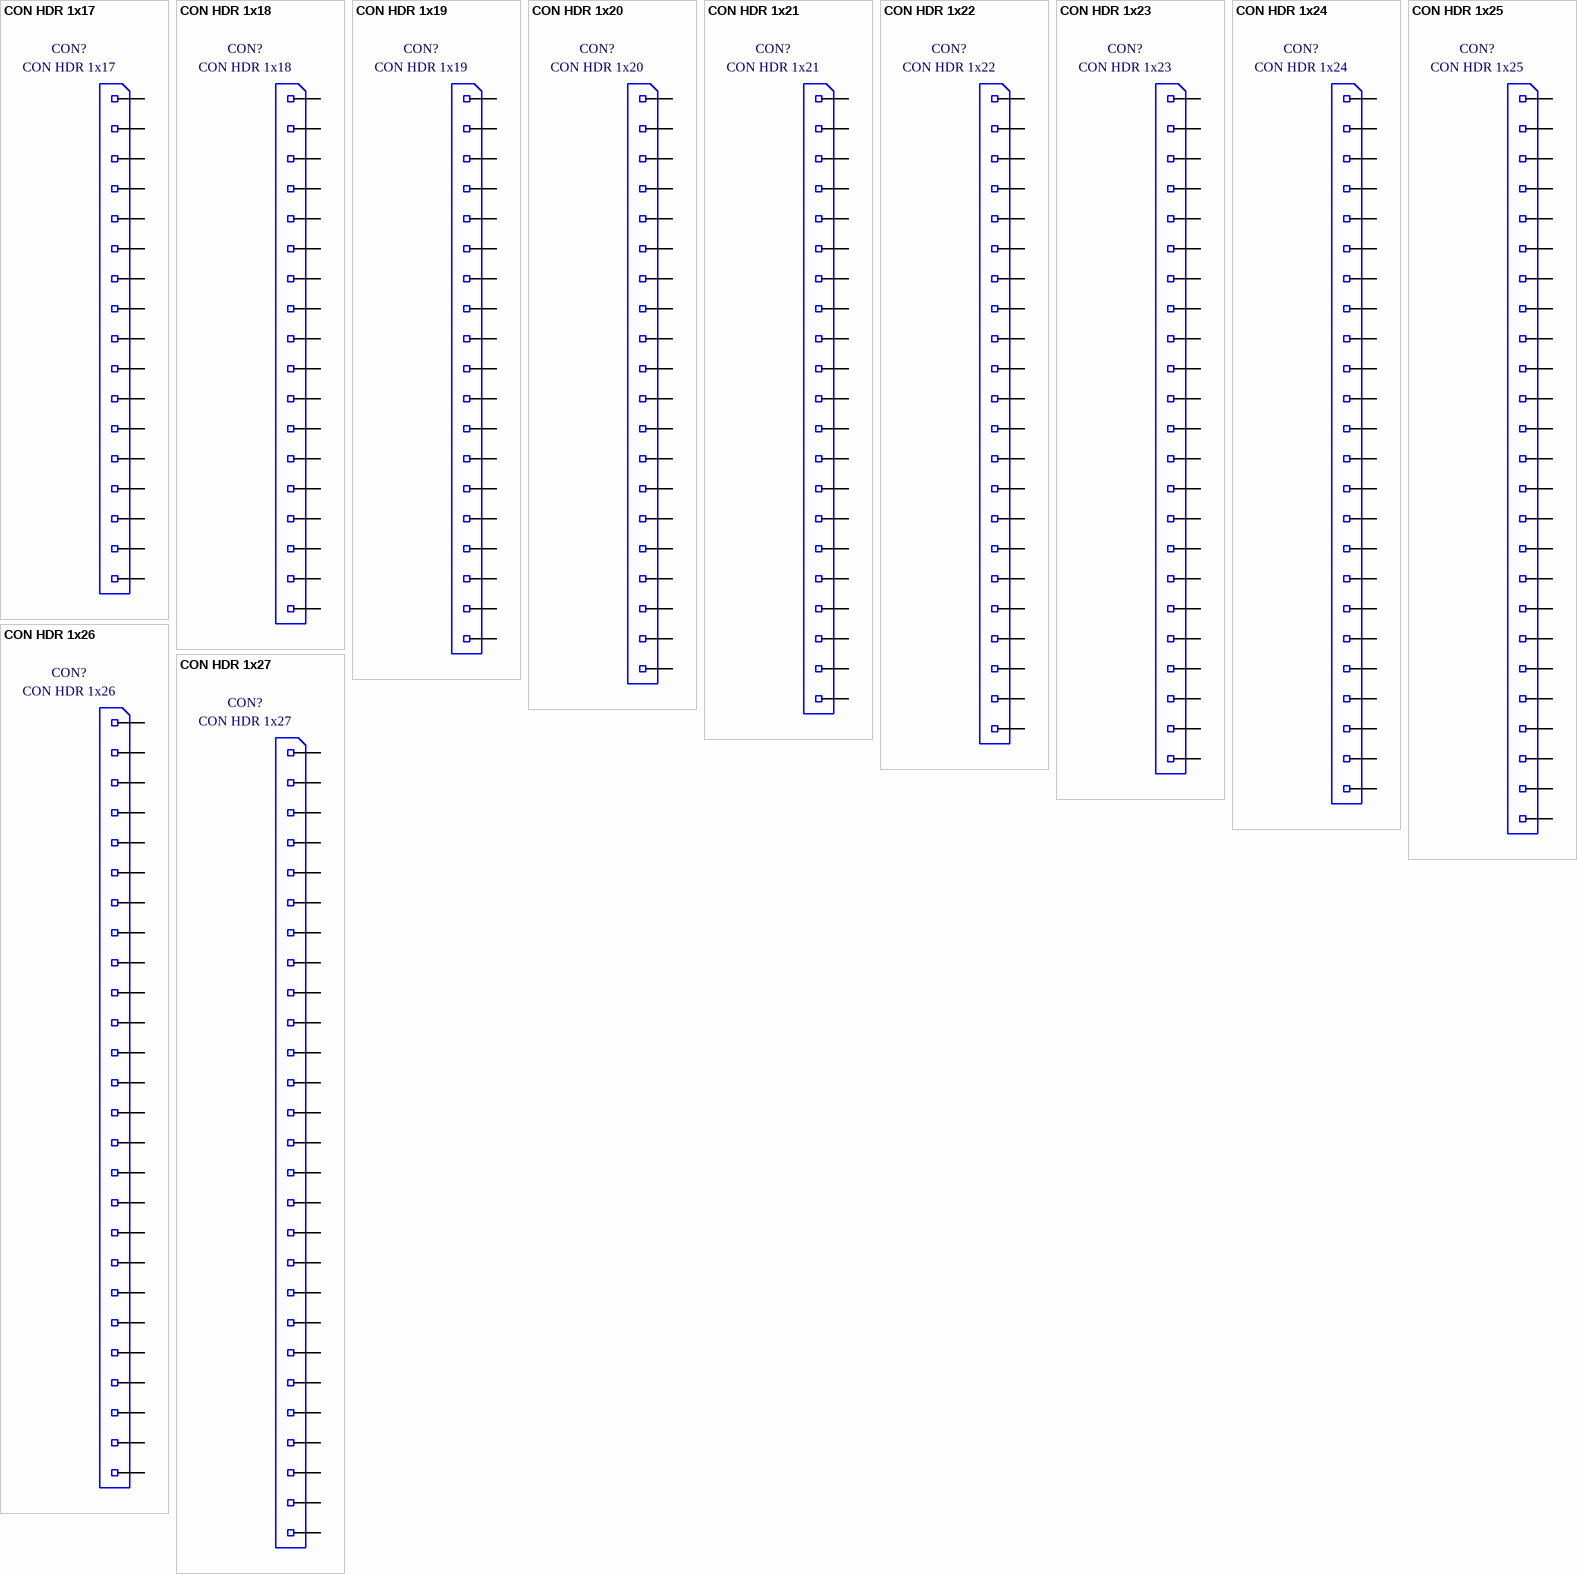
[diagram p239: symbols CON HDR 1x17 to CON HDR 1x27]

## CON HDR 1x17
designator CON?
pcb header recht 1x17  pitch 100mil; Part Number: CON HDR 1x17; Component Kind: Standard; Component Type: Standard; Designator: CON HDR 1x17; Footprint: hdr 1x17; Library Reference: CON HDR 1x17; Pin Count: 17
footprint hdr 1x17
pins: 1, 2, 3, 4, 5, 6, 7, 8, 9, 10, 11, 12, 13, 14, 15, 16, 17

## CON HDR 1x18
designator CON?
pcb header recht 1x18  pitch 100mil; Part Number: CON HDR 1x18; Component Kind: Standard; Component Type: Standard; Designator: CON HDR 1x18; Footprint: hdr 1x18; Library Reference: CON HDR 1x18; Pin Count: 18
footprint hdr 1x18
pins: 1, 2, 3, 4, 5, 6, 7, 8, 9, 10, 11, 12, 13, 14, 15, 16, 17, 18

## CON HDR 1x19
designator CON?
pcb header recht 1x19  pitch 100mil; Part Number: CON HDR 1x19; Component Kind: Standard; Component Type: Standard; Designator: CON HDR 1x19; Footprint: hdr 1x19; Library Reference: CON HDR 1x19; Pin Count: 19
footprint hdr 1x19
pins: 1, 2, 3, 4, 5, 6, 7, 8, 9, 10, 11, 12, 13, 14, 15, 16, 17, 18, 19

## CON HDR 1x20
designator CON?
pcb header recht 1x20  pitch 100mil; Part Number: CON HDR 1x20; Component Kind: Standard; Component Type: Standard; Designator: CON HDR 1x20; Footprint: hdr 1x20; Library Reference: CON HDR 1x20; Pin Count: 20
footprint hdr 1x20
pins: 1, 2, 3, 4, 5, 6, 7, 8, 9, 10, 11, 12, 13, 14, 15, 16, 17, 18, 19, 20

## CON HDR 1x21
designator CON?
pcb header recht 1x21  pitch 100mil; Part Number: CON HDR 1x21; Component Kind: Standard; Component Type: Standard; Designator: CON HDR 1x21; Footprint: hdr 1x21; Library Reference: CON HDR 1x21; Pin Count: 21
footprint hdr 1x21
pins: 1, 2, 3, 4, 5, 6, 7, 8, 9, 10, 11, 12, 13, 14, 15, 16, 17, 18, 19, 20, 21

## CON HDR 1x22
designator CON?
pcb header recht 1x22  pitch 100mil; Part Number: CON HDR 1x22; Component Kind: Standard; Component Type: Standard; Designator: CON HDR 1x22; Footprint: hdr 1x22; Library Reference: CON HDR 1x22; Pin Count: 22
footprint hdr 1x22
pins: 1, 2, 3, 4, 5, 6, 7, 8, 9, 10, 11, 12, 13, 14, 15, 16, 17, 18, 19, 20, 21, 22